# Altium schematic symbol library con-vg.SCHLIB: 123 symbols (part 2 of 5)

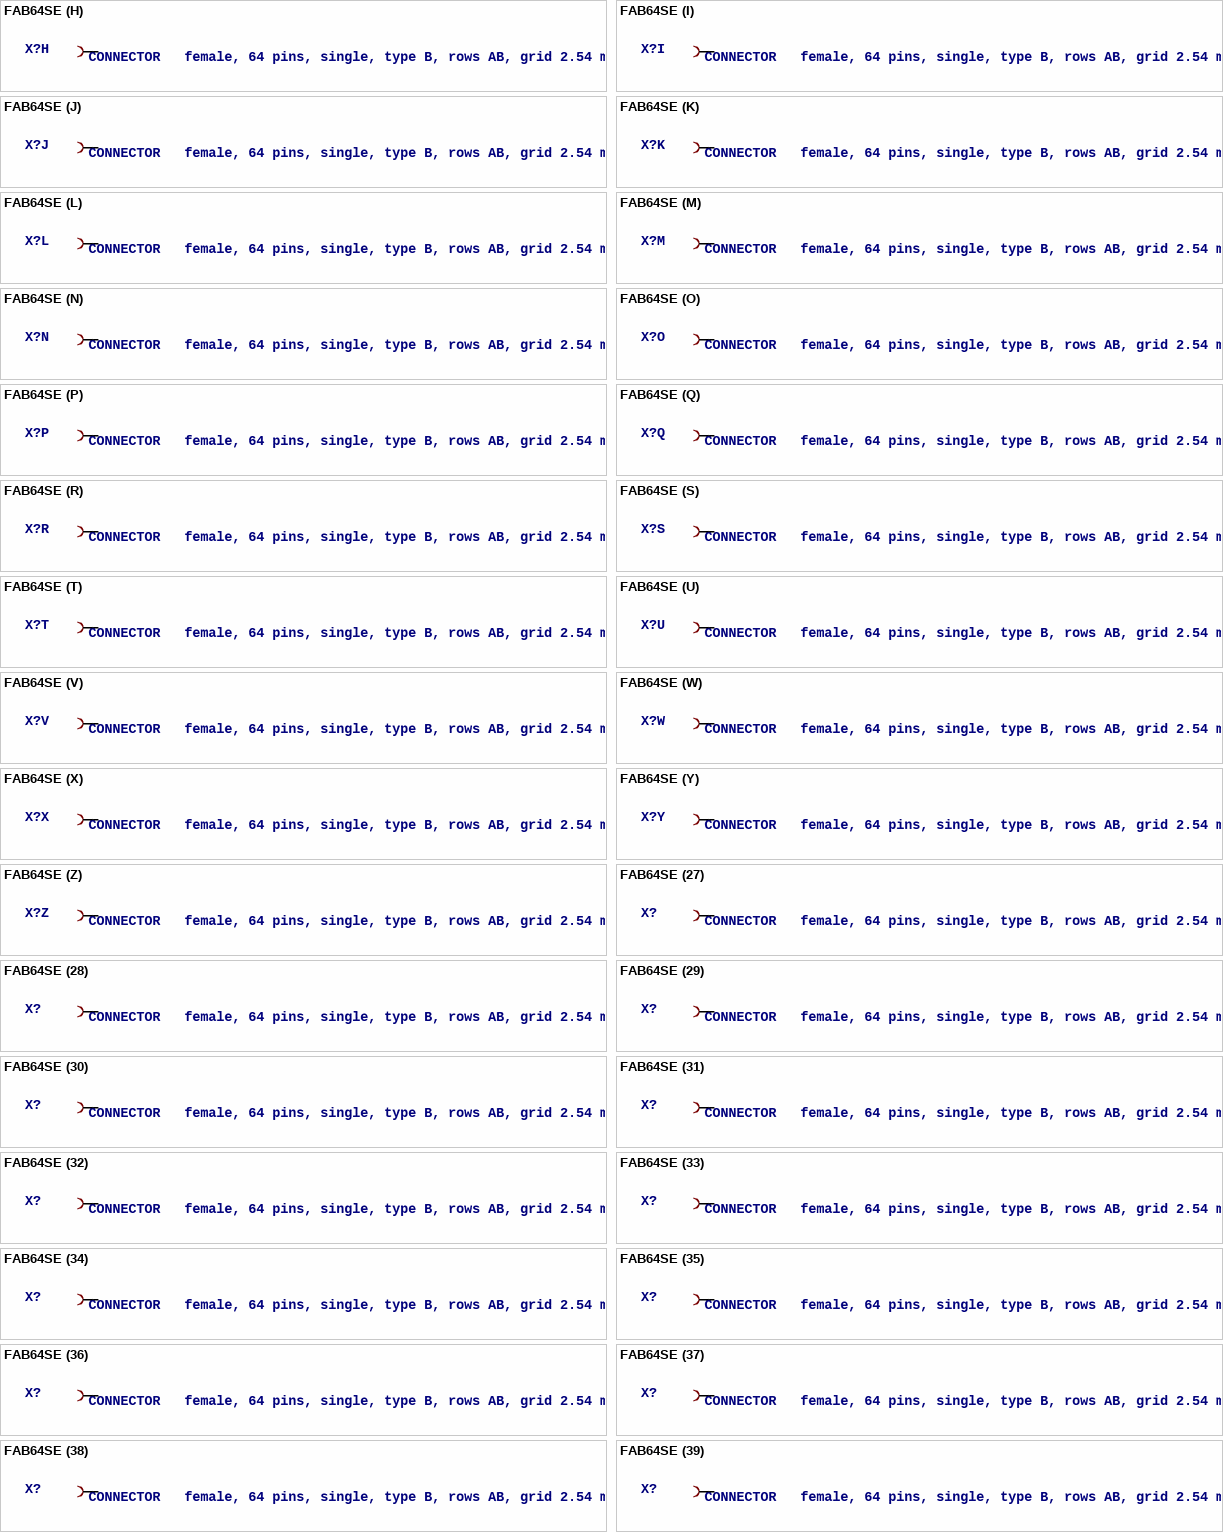
[diagram p23: symbol FAB64SE]

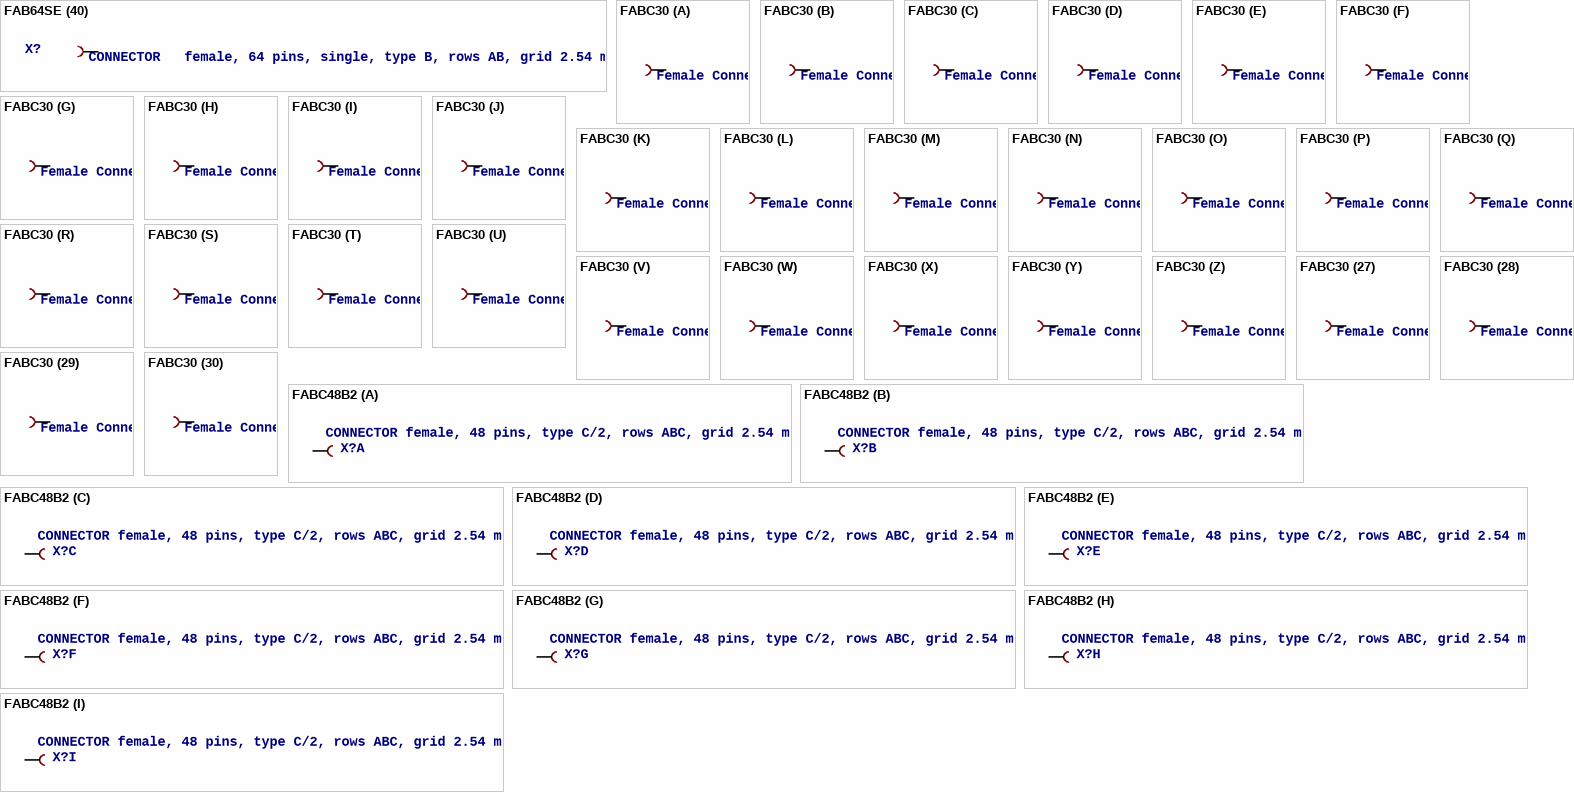
[diagram p24: symbols FAB64SE to FABC48B2]

## FAB64SE
designator X?, comment CONNECTOR   female, 64 pins, single, type B, rows AB, grid 2.54 mm
footprint FAB64S
part A pins: A1 B
part B pins: A2 B
part C pins: A3 B
part D pins: A4 B
part E pins: A5 B
part F pins: A6 B
part G pins: A7 B
part H pins: A8 B
part I pins: A9 B
part J pins: A10 B
part K pins: A11 B
part L pins: A12 B
part M pins: A13 B
part N pins: A14 B
part O pins: A15 B
part P pins: A16 B
part Q pins: A17 B
part R pins: A18 B
part S pins: A19 B
part T pins: A20 B
part U pins: A21 B
part V pins: A22 B
part W pins: A23 B
part X pins: A24 B
part Y pins: A25 B
part Z pins: A26 B
part 27 pins: A27 B
part 28 pins: A28 B
part 29 pins: A29 B
part 30 pins: A30 B
part 31 pins: A31 B
part 32 pins: A32 B
part 33 pins: B1 B
part 34 pins: B2 B
part 35 pins: B3 B
part 36 pins: B4 B
part 37 pins: B5 B
part 38 pins: B6 B
part 39 pins: B7 B
part 40 pins: B8 B
part 41 pins: B9 B
part 42 pins: B10 B
part 43 pins: B11 B
part 44 pins: B12 B
part 45 pins: B13 B
part 46 pins: B14 B
part 47 pins: B15 B
part 48 pins: B16 B
part 49 pins: B17 B
part 50 pins: B18 B
part 51 pins: B19 B
part 52 pins: B20 B
part 53 pins: B21 B
part 54 pins: B22 B
part 55 pins: B23 B
part 56 pins: B24 B
part 57 pins: B25 B
part 58 pins: B26 B
part 59 pins: B27 B
part 60 pins: B28 B
part 61 pins: B29 B
part 62 pins: B30 B
part 63 pins: B31 B
part 64 pins: B32 B

## FABC30
designator X?, comment Female Connector C/3, 30 Solder   DIN EN 60 603-02 Source: www.erni.com .. 254891.pdf
footprint FABC30
part A pins: A1 B
part B pins: A2 B
part C pins: A3 B
part D pins: A4 B
part E pins: A5 B
part F pins: A6 B
part G pins: A7 B
part H pins: A8 B
part I pins: A9 B
part J pins: A10 B
part K pins: B1 B
part L pins: B2 B
part M pins: B3 B
part N pins: B4 B
part O pins: B5 B
part P pins: B6 B
part Q pins: B7 B
part R pins: B8 B
part S pins: B9 B
part T pins: B10 B
part U pins: C1 B
part V pins: C2 B
part W pins: C3 B
part X pins: C4 B
part Y pins: C5 B
part Z pins: C6 B
part 27 pins: C7 B
part 28 pins: C8 B
part 29 pins: C9 B
part 30 pins: C10 B

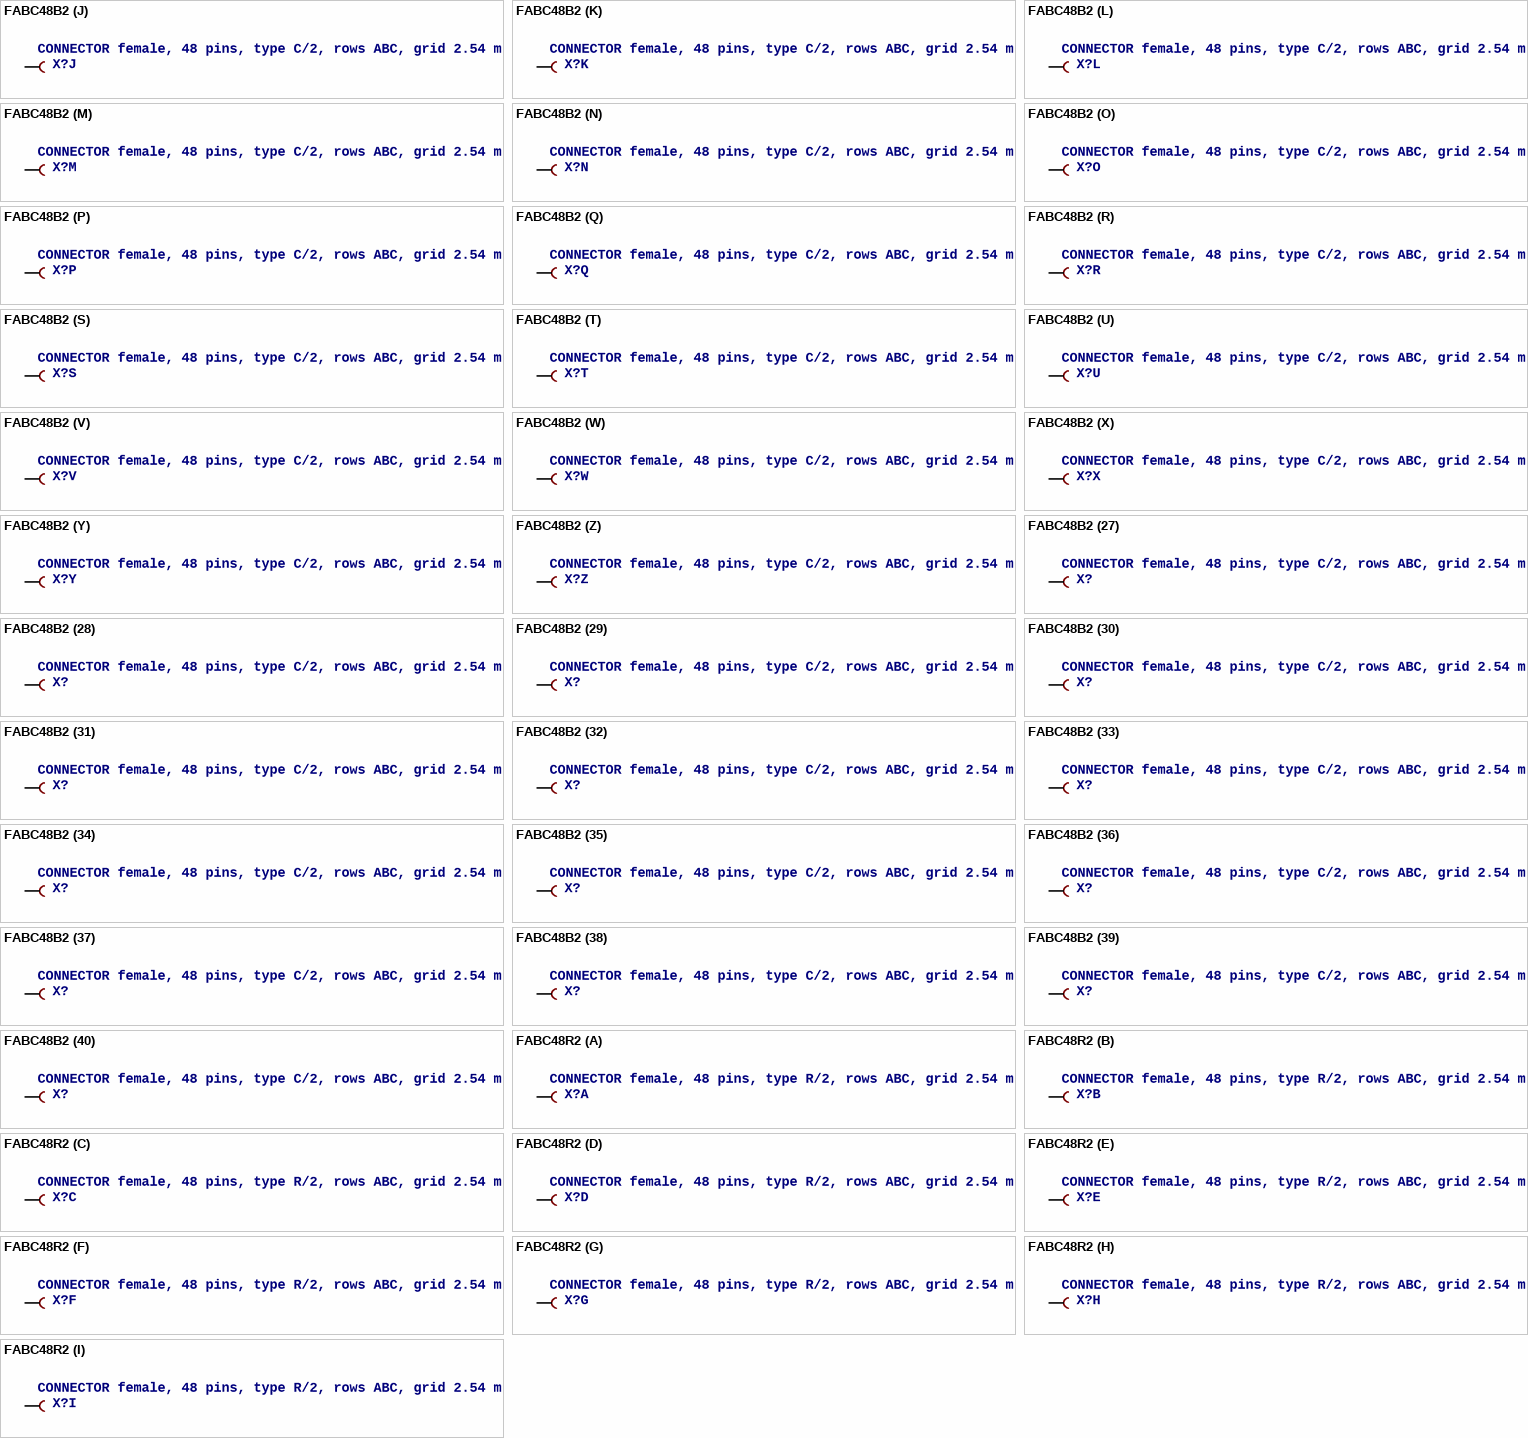
[diagram p25: symbols FABC48B2 to FABC48R2]

## FABC48B2
designator X?, comment CONNECTOR female, 48 pins, type C/2, rows ABC, grid 2.54 mm
footprint FABC48B2
part A pins: A1 B
part B pins: A2 B
part C pins: A3 B
part D pins: A4 B
part E pins: A5 B
part F pins: A6 B
part G pins: A7 B
part H pins: A8 B
part I pins: A9 B
part J pins: A10 B
part K pins: A11 B
part L pins: A12 B
part M pins: A13 B
part N pins: A14 B
part O pins: A15 B
part P pins: A16 B
part Q pins: B1 B
part R pins: B2 B
part S pins: B3 B
part T pins: B4 B
part U pins: B5 B
part V pins: B6 B
part W pins: B7 B
part X pins: B8 B
part Y pins: B9 B
part Z pins: B10 B
part 27 pins: B11 B
part 28 pins: B12 B
part 29 pins: B13 B
part 30 pins: B14 B
part 31 pins: B15 B
part 32 pins: B16 B
part 33 pins: C1 B
part 34 pins: C2 B
part 35 pins: C3 B
part 36 pins: C4 B
part 37 pins: C5 B
part 38 pins: C6 B
part 39 pins: C7 B
part 40 pins: C8 B
part 41 pins: C9 B
part 42 pins: C10 B
part 43 pins: C11 B
part 44 pins: C12 B
part 45 pins: C13 B
part 46 pins: C14 B
part 47 pins: C15 B
part 48 pins: C16 B

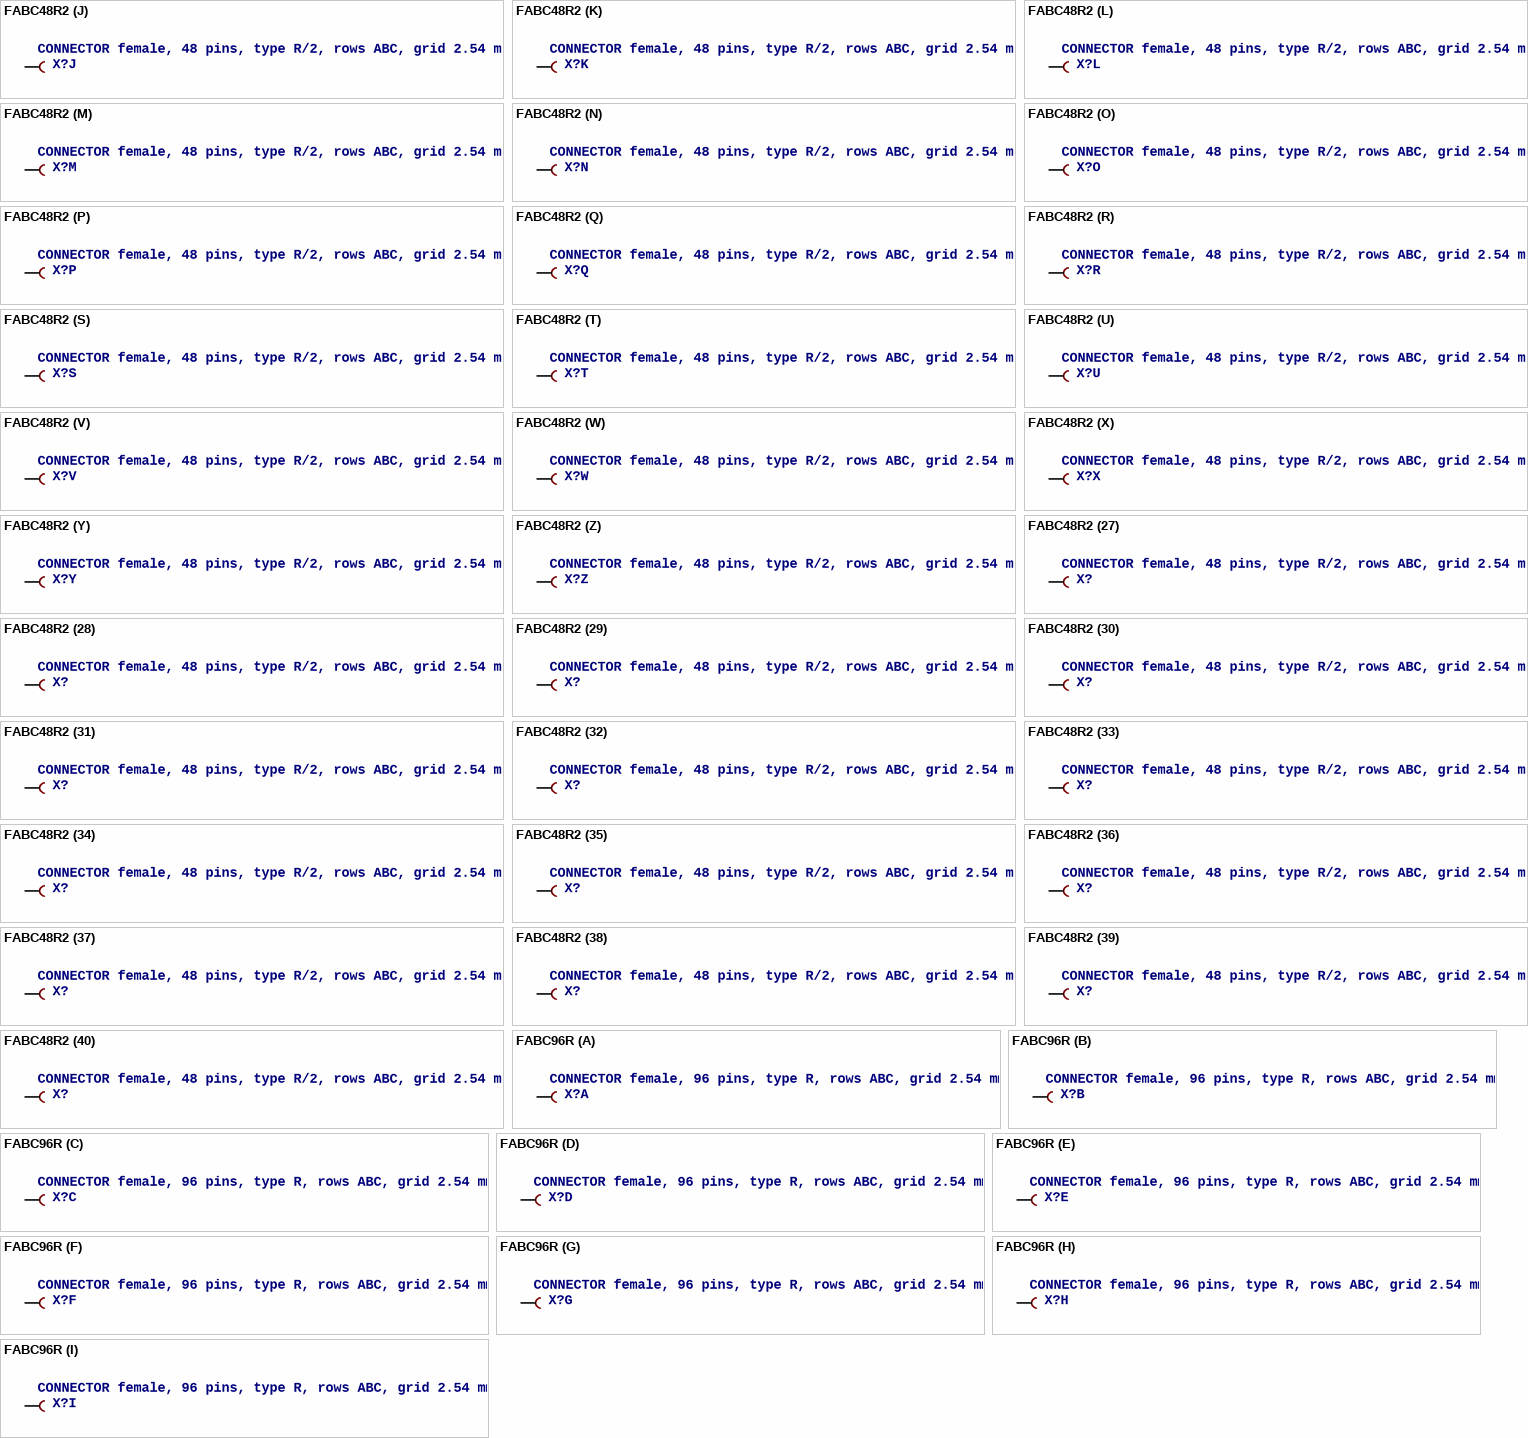
[diagram p26: symbols FABC48R2 to FABC96R]

## FABC48R2
designator X?, comment CONNECTOR female, 48 pins, type R/2, rows ABC, grid 2.54 mm
footprint FABC48R2
part A pins: A1 B
part B pins: A2 B
part C pins: A3 B
part D pins: A4 B
part E pins: A5 B
part F pins: A6 B
part G pins: A7 B
part H pins: A8 B
part I pins: A9 B
part J pins: A10 B
part K pins: A11 B
part L pins: A12 B
part M pins: A13 B
part N pins: A14 B
part O pins: A15 B
part P pins: A16 B
part Q pins: B1 B
part R pins: B2 B
part S pins: B3 B
part T pins: B4 B
part U pins: B5 B
part V pins: B6 B
part W pins: B7 B
part X pins: B8 B
part Y pins: B9 B
part Z pins: B10 B
part 27 pins: B11 B
part 28 pins: B12 B
part 29 pins: B13 B
part 30 pins: B14 B
part 31 pins: B15 B
part 32 pins: B16 B
part 33 pins: C1 B
part 34 pins: C2 B
part 35 pins: C3 B
part 36 pins: C4 B
part 37 pins: C5 B
part 38 pins: C6 B
part 39 pins: C7 B
part 40 pins: C8 B
part 41 pins: C9 B
part 42 pins: C10 B
part 43 pins: C11 B
part 44 pins: C12 B
part 45 pins: C13 B
part 46 pins: C14 B
part 47 pins: C15 B
part 48 pins: C16 B

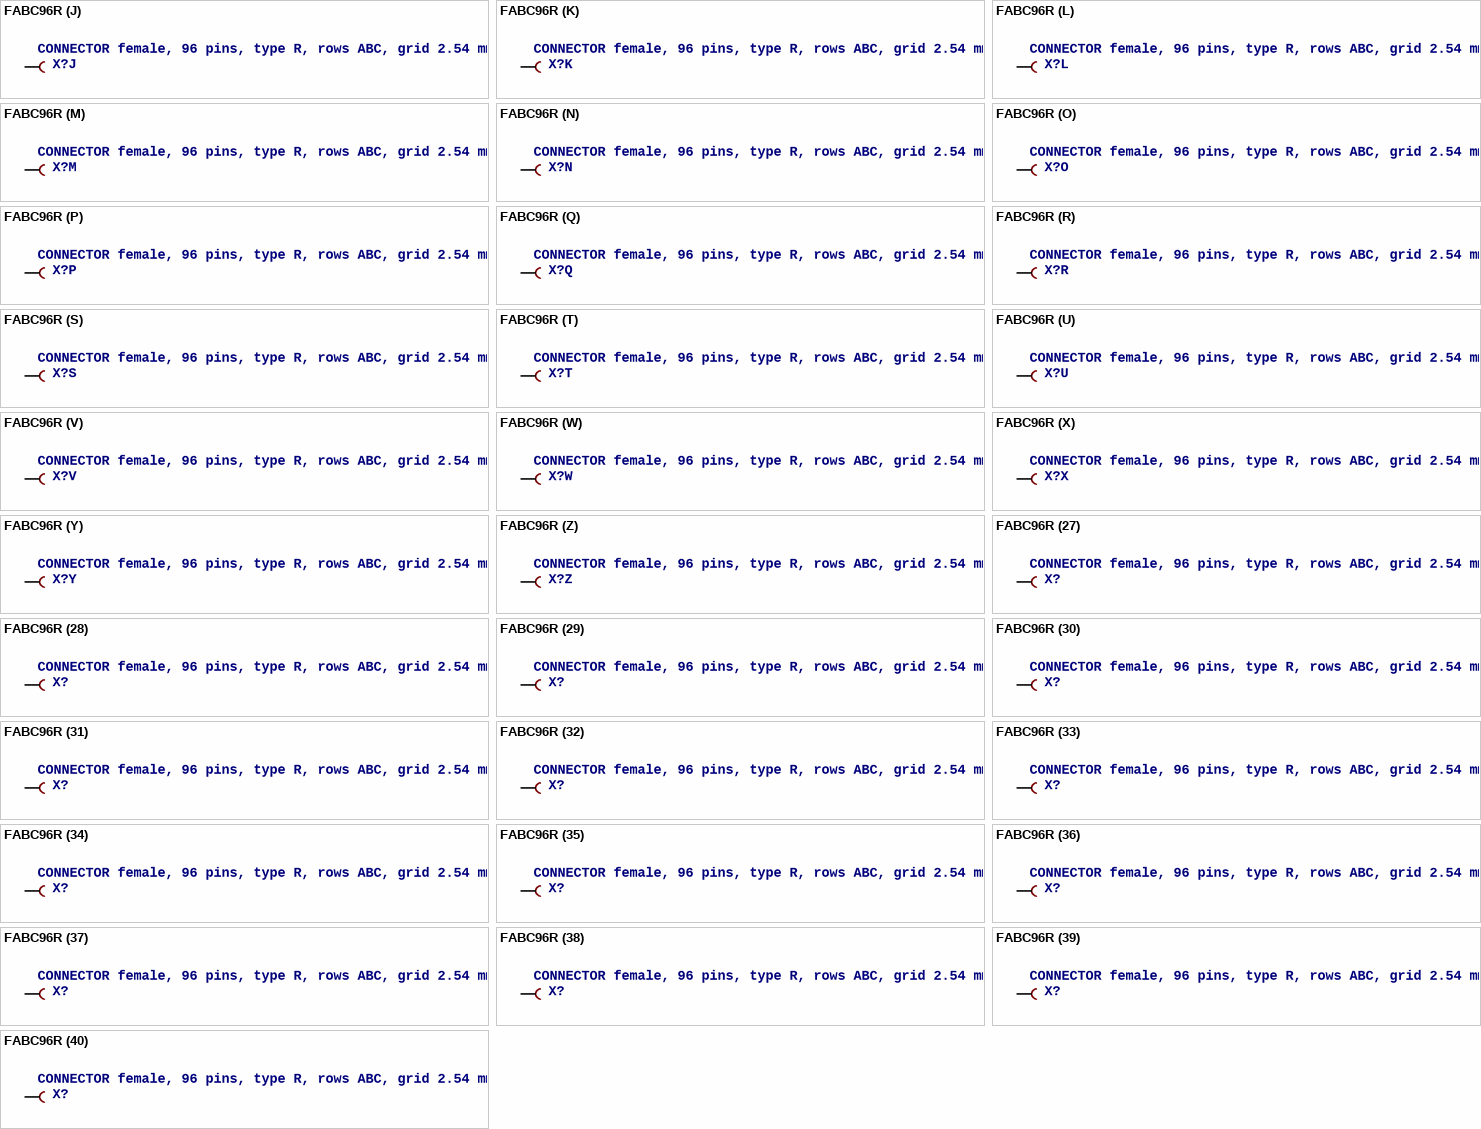
[diagram p27: symbol FABC96R]

## FABC96R
designator X?, comment CONNECTOR female, 96 pins, type R, rows ABC, grid 2.54 mm
footprint FABC96R
part A pins: A1 B
part B pins: A2 B
part C pins: A3 B
part D pins: A4 B
part E pins: A5 B
part F pins: A6 B
part G pins: A7 B
part H pins: A8 B
part I pins: A9 B
part J pins: A10 B
part K pins: A11 B
part L pins: A12 B
part M pins: A13 B
part N pins: A14 B
part O pins: A15 B
part P pins: A16 B
part Q pins: A17 B
part R pins: A18 B
part S pins: A19 B
part T pins: A20 B
part U pins: A21 B
part V pins: A22 B
part W pins: A23 B
part X pins: A24 B
part Y pins: A25 B
part Z pins: A26 B
part 27 pins: A27 B
part 28 pins: A28 B
part 29 pins: A29 B
part 30 pins: A30 B
part 31 pins: A31 B
part 32 pins: A32 B
part 33 pins: B1 B
part 34 pins: B2 B
part 35 pins: B3 B
part 36 pins: B4 B
part 37 pins: B5 B
part 38 pins: B6 B
part 39 pins: B7 B
part 40 pins: B8 B
part 41 pins: B9 B
part 42 pins: B10 B
part 43 pins: B11 B
part 44 pins: B12 B
part 45 pins: B13 B
part 46 pins: B14 B
part 47 pins: B15 B
part 48 pins: B16 B
part 49 pins: B17 B
part 50 pins: B18 B
part 51 pins: B19 B
part 52 pins: B20 B
part 53 pins: B21 B
part 54 pins: B22 B
part 55 pins: B23 B
part 56 pins: B24 B
part 57 pins: B25 B
part 58 pins: B26 B
part 59 pins: B27 B
part 60 pins: B28 B
part 61 pins: B29 B
part 62 pins: B30 B
part 63 pins: B31 B
part 64 pins: B32 B
part 65 pins: C1 B
part 66 pins: C2 B
part 67 pins: C3 B
part 68 pins: C4 B
part 69 pins: C5 B
part 70 pins: C6 B
part 71 pins: C7 B
part 72 pins: C8 B
part 73 pins: C9 B
part 74 pins: C10 B
part 75 pins: C11 B
part 76 pins: C12 B
part 77 pins: C13 B
part 78 pins: C14 B
part 79 pins: C15 B
part 80 pins: C16 B
part 81 pins: C17 B
part 82 pins: C18 B
part 83 pins: C19 B
part 84 pins: C20 B
part 85 pins: C21 B
part 86 pins: C22 B
part 87 pins: C23 B
part 88 pins: C24 B
part 89 pins: C25 B
part 90 pins: C26 B
part 91 pins: C27 B
part 92 pins: C28 B
part 93 pins: C29 B
part 94 pins: C30 B
part 95 pins: C31 B
part 96 pins: C32 B

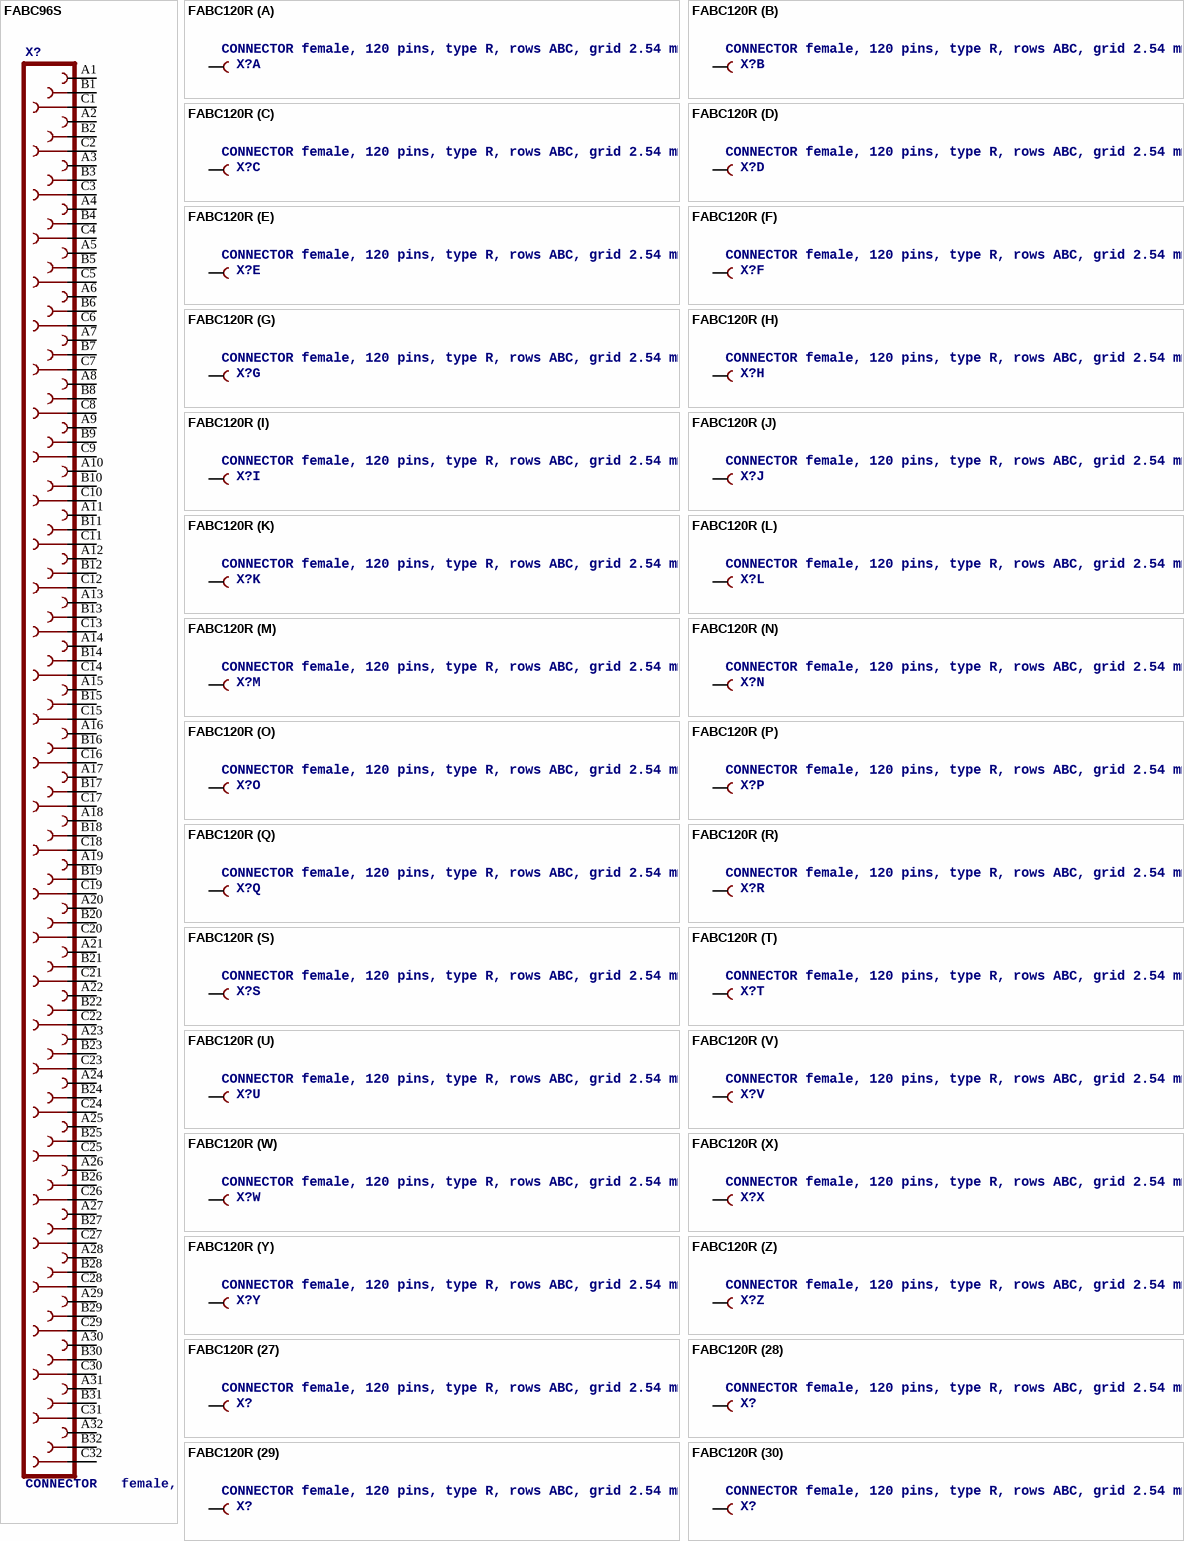
[diagram p28: symbols FABC96S to FABC120R]

## FABC96S
designator X?, comment CONNECTOR   female, 96 pins, block, type C, rows ABC, grid 2.54 mm
footprint FABC96S
pins: A1, A2, A3, A4, A5, A6, A7, A8, A9, A10, A11, A12, A13, A14, A15, A16, A17, A18, A19, A20, A21, A22, A23, A24, A25, A26, A27, A28, A29, A30, A31, A32, B1, B2, B3, B4, B5, B6, B7, B8, B9, B10, B11, B12, B13, B14, B15, B16, B17, B18, B19, B20, B21, B22, B23, B24, B25, B26, B27, B28, B29, B30, B31, B32, C1, C2, C3, C4, C5, C6, C7, C8, C9, C10, C11, C12, C13, C14, C15, C16, C17, C18, C19, C20, C21, C22, C23, C24, C25, C26, C27, C28, C29, C30, C31, C32

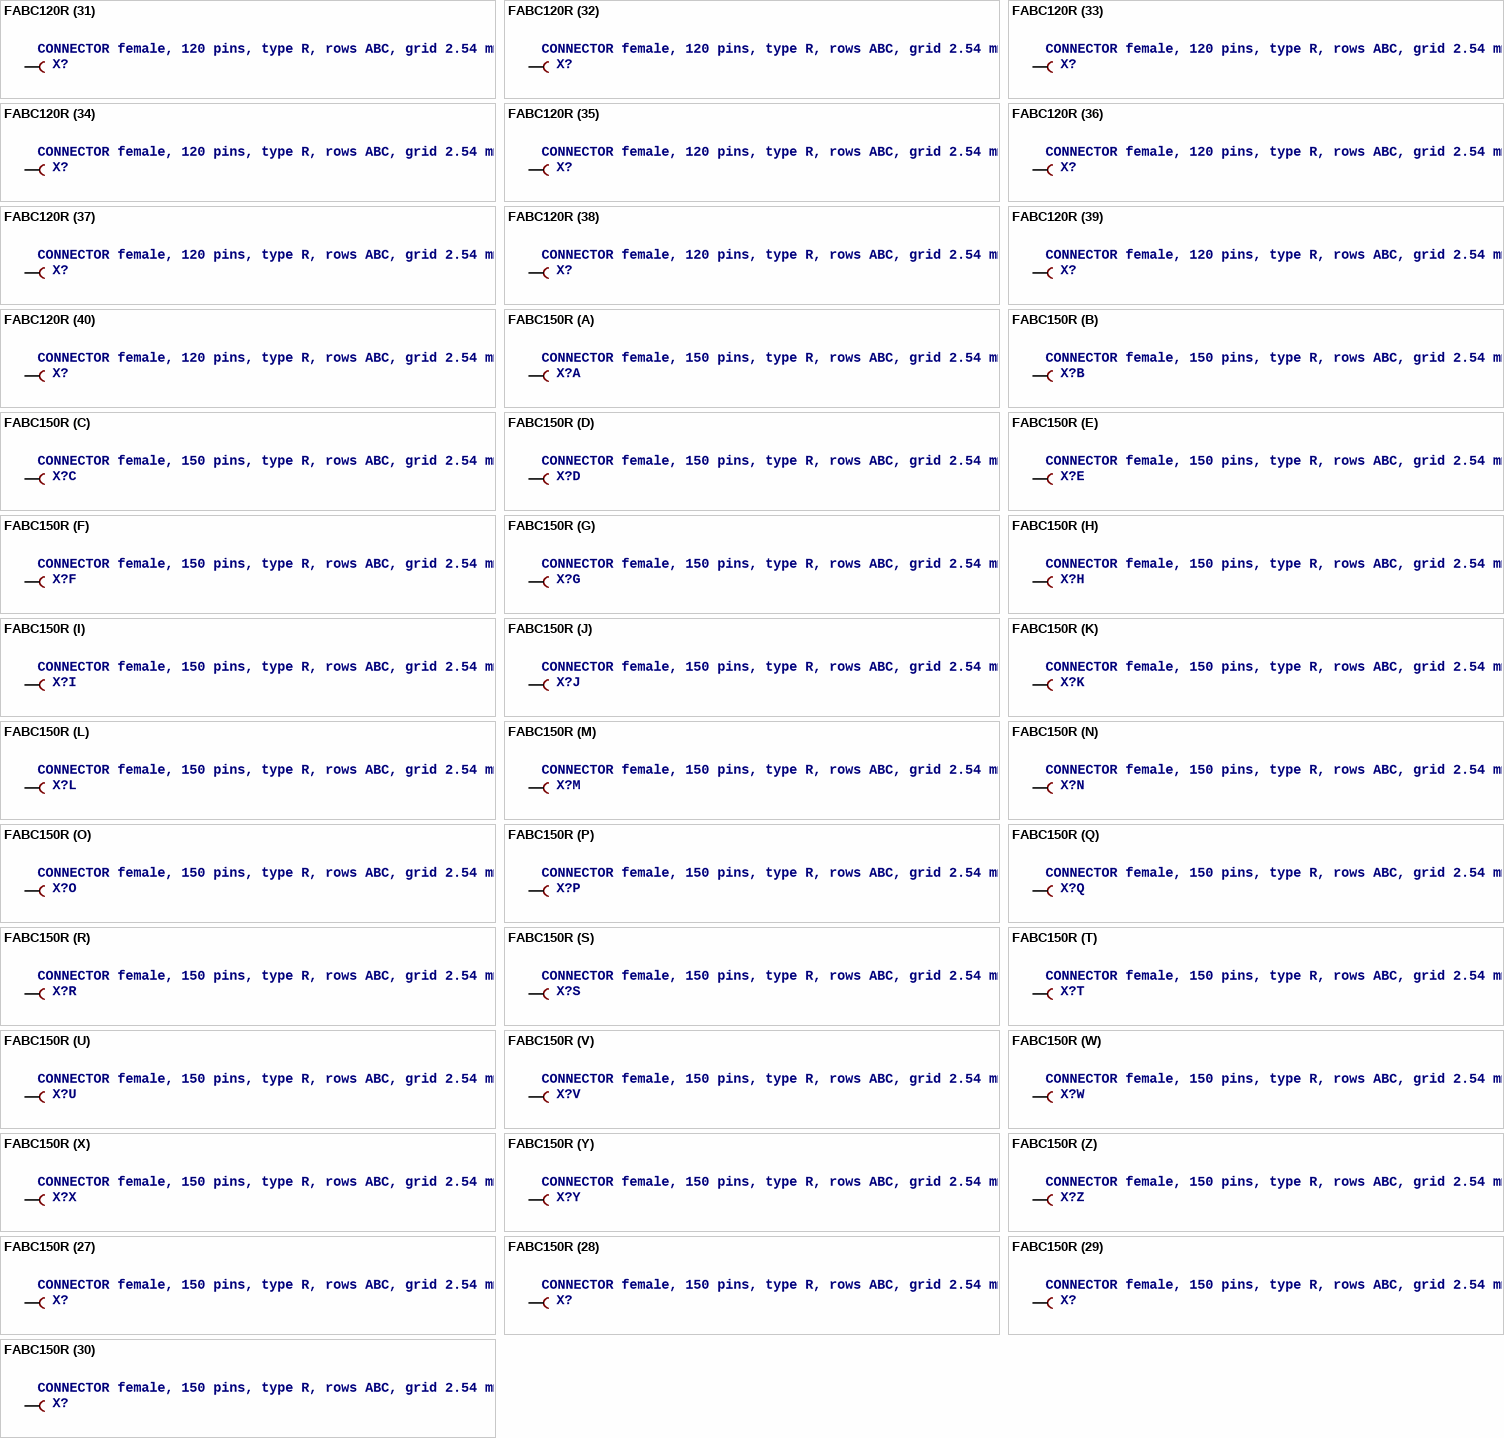
[diagram p29: symbols FABC120R to FABC150R]

## FABC120R
designator X?, comment CONNECTOR female, 120 pins, type R, rows ABC, grid 2.54 mm
footprint FABC120R
part A pins: A1 B
part B pins: A2 B
part C pins: A3 B
part D pins: A4 B
part E pins: A5 B
part F pins: A6 B
part G pins: A7 B
part H pins: A8 B
part I pins: A9 B
part J pins: A10 B
part K pins: A11 B
part L pins: A12 B
part M pins: A13 B
part N pins: A14 B
part O pins: A15 B
part P pins: A16 B
part Q pins: A17 B
part R pins: A18 B
part S pins: A19 B
part T pins: A20 B
part U pins: A21 B
part V pins: A22 B
part W pins: A23 B
part X pins: A24 B
part Y pins: A25 B
part Z pins: A26 B
part 27 pins: A27 B
part 28 pins: A28 B
part 29 pins: A29 B
part 30 pins: A30 B
part 31 pins: A31 B
part 32 pins: A32 B
part 33 pins: A33 B
part 34 pins: A34 B
part 35 pins: A35 B
part 36 pins: A36 B
part 37 pins: A37 B
part 38 pins: A38 B
part 39 pins: A39 B
part 40 pins: A40 B
part 41 pins: B1 B
part 42 pins: B2 B
part 43 pins: B3 B
part 44 pins: B4 B
part 45 pins: B5 B
part 46 pins: B6 B
part 47 pins: B7 B
part 48 pins: B8 B
part 49 pins: B9 B
part 50 pins: B10 B
part 51 pins: B11 B
part 52 pins: B12 B
part 53 pins: B13 B
part 54 pins: B14 B
part 55 pins: B15 B
part 56 pins: B16 B
part 57 pins: B17 B
part 58 pins: B18 B
part 59 pins: B19 B
part 60 pins: B20 B
part 61 pins: B21 B
part 62 pins: B22 B
part 63 pins: B23 B
part 64 pins: B24 B
part 65 pins: B25 B
part 66 pins: B26 B
part 67 pins: B27 B
part 68 pins: B28 B
part 69 pins: B29 B
part 70 pins: B30 B
part 71 pins: B31 B
part 72 pins: B32 B
part 73 pins: B33 B
part 74 pins: B34 B
part 75 pins: B35 B
part 76 pins: B36 B
part 77 pins: B37 B
part 78 pins: B38 B
part 79 pins: B39 B
part 80 pins: B40 B
part 81 pins: C1 B
part 82 pins: C2 B
part 83 pins: C3 B
part 84 pins: C4 B
part 85 pins: C5 B
part 86 pins: C6 B
part 87 pins: C7 B
part 88 pins: C8 B
part 89 pins: C9 B
part 90 pins: C10 B
part 91 pins: C11 B
part 92 pins: C12 B
part 93 pins: C13 B
part 94 pins: C14 B
part 95 pins: C15 B
part 96 pins: C16 B
part 97 pins: C17 B
part 98 pins: C18 B
part 99 pins: C19 B
part 100 pins: C20 B
part 101 pins: C21 B
part 102 pins: C22 B
part 103 pins: C23 B
part 104 pins: C24 B
part 105 pins: C25 B
part 106 pins: C26 B
part 107 pins: C27 B
part 108 pins: C28 B
part 109 pins: C29 B
part 110 pins: C30 B
part 111 pins: C31 B
part 112 pins: C32 B
part 113 pins: C33 B
part 114 pins: C34 B
part 115 pins: C35 B
part 116 pins: C36 B
part 117 pins: C37 B
part 118 pins: C38 B
part 119 pins: C39 B
part 120 pins: C40 B

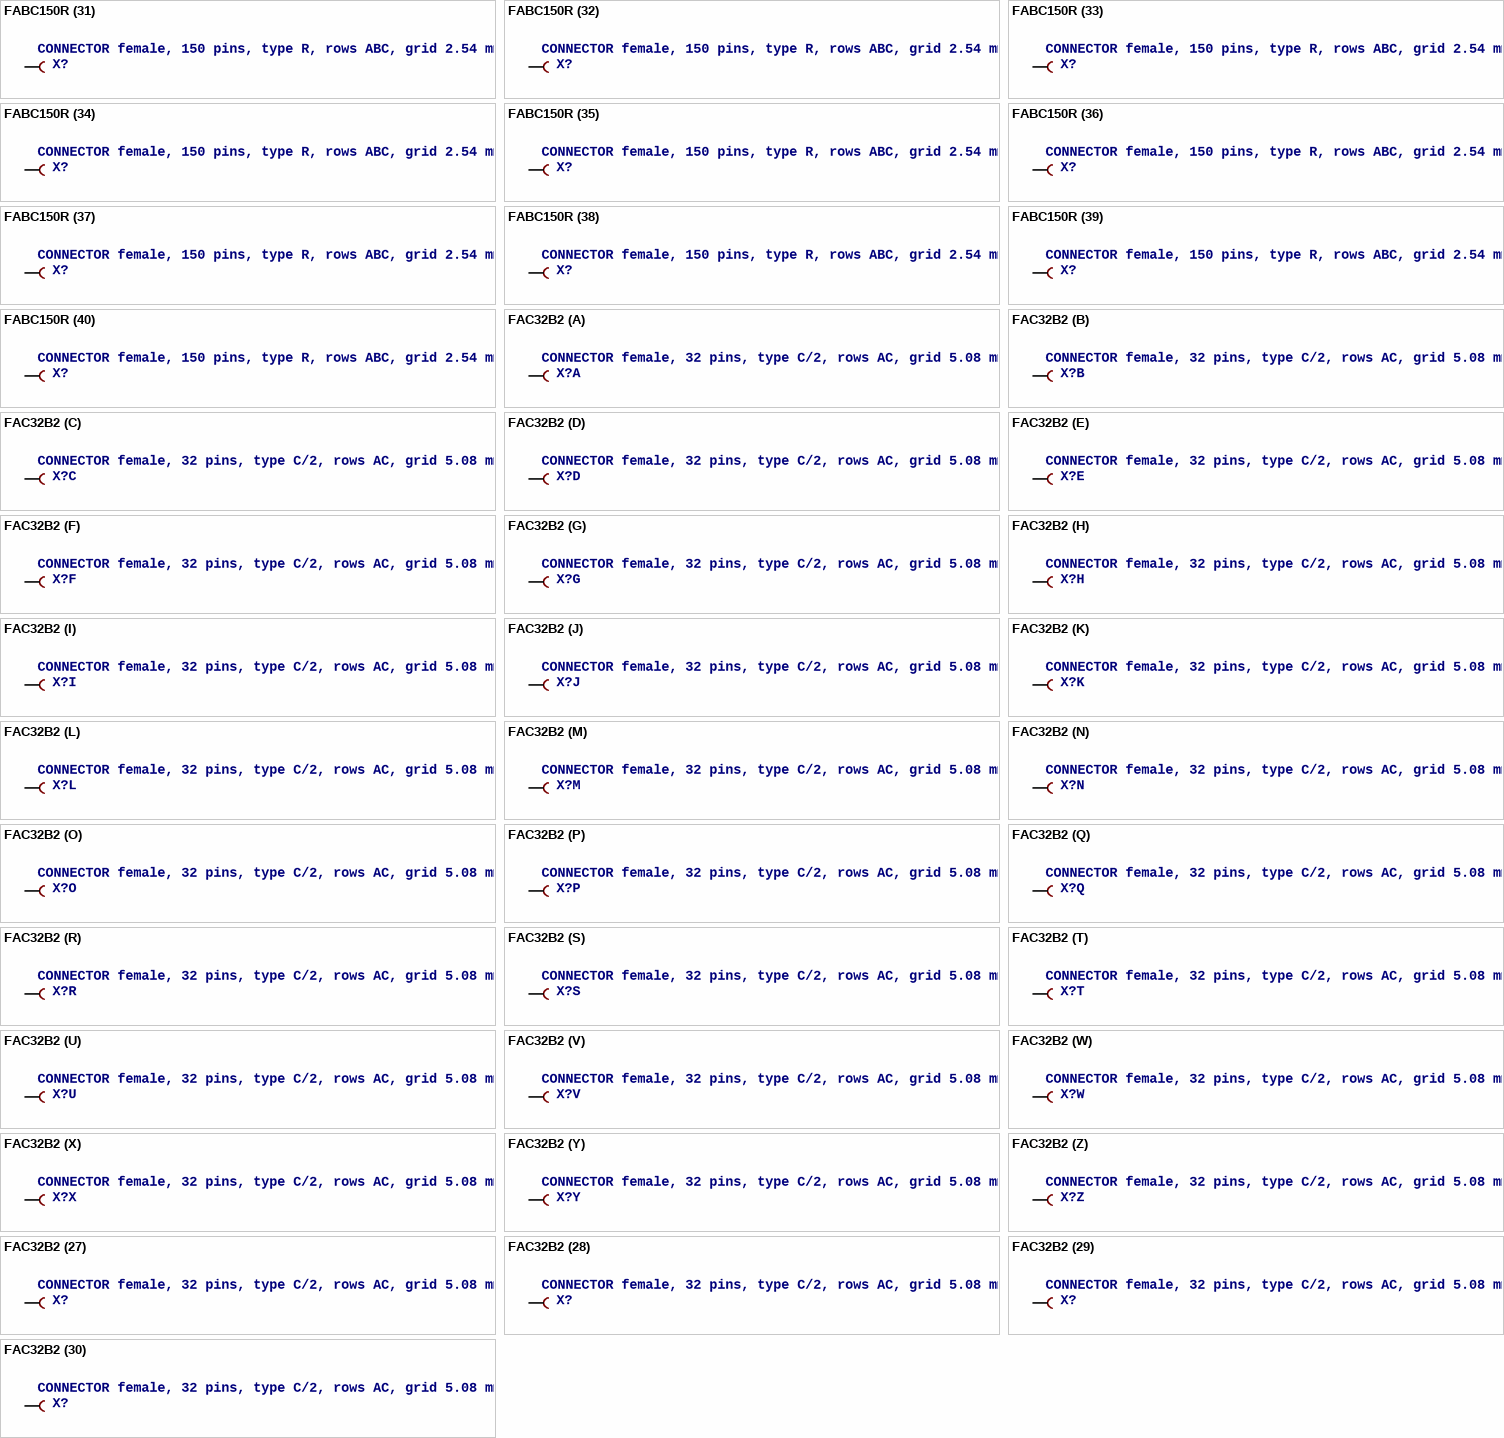
[diagram p30: symbols FABC150R to FAC32B2]

## FABC150R
designator X?, comment CONNECTOR female, 150 pins, type R, rows ABC, grid 2.54 mm
footprint FABC150R
part A pins: A1 B
part B pins: A2 B
part C pins: A3 B
part D pins: A4 B
part E pins: A5 B
part F pins: A6 B
part G pins: A7 B
part H pins: A8 B
part I pins: A9 B
part J pins: A10 B
part K pins: A11 B
part L pins: A12 B
part M pins: A13 B
part N pins: A14 B
part O pins: A15 B
part P pins: A16 B
part Q pins: A17 B
part R pins: A18 B
part S pins: A19 B
part T pins: A20 B
part U pins: A21 B
part V pins: A22 B
part W pins: A23 B
part X pins: A24 B
part Y pins: A25 B
part Z pins: A26 B
part 27 pins: A27 B
part 28 pins: A28 B
part 29 pins: A29 B
part 30 pins: A30 B
part 31 pins: A31 B
part 32 pins: A32 B
part 33 pins: A33 B
part 34 pins: A34 B
part 35 pins: A35 B
part 36 pins: A36 B
part 37 pins: A37 B
part 38 pins: A38 B
part 39 pins: A39 B
part 40 pins: A40 B
part 41 pins: A41 B
part 42 pins: A42 B
part 43 pins: A43 B
part 44 pins: A44 B
part 45 pins: A45 B
part 46 pins: A46 B
part 47 pins: A47 B
part 48 pins: A48 B
part 49 pins: A49 B
part 50 pins: A50 B
part 51 pins: B1 B
part 52 pins: B2 B
part 53 pins: B3 B
part 54 pins: B4 B
part 55 pins: B5 B
part 56 pins: B6 B
part 57 pins: B7 B
part 58 pins: B8 B
part 59 pins: B9 B
part 60 pins: B10 B
part 61 pins: B11 B
part 62 pins: B12 B
part 63 pins: B13 B
part 64 pins: B14 B
part 65 pins: B15 B
part 66 pins: B16 B
part 67 pins: B17 B
part 68 pins: B18 B
part 69 pins: B19 B
part 70 pins: B20 B
part 71 pins: B21 B
part 72 pins: B22 B
part 73 pins: B23 B
part 74 pins: B24 B
part 75 pins: B25 B
part 76 pins: B26 B
part 77 pins: B27 B
part 78 pins: B28 B
part 79 pins: B29 B
part 80 pins: B30 B
part 81 pins: B31 B
part 82 pins: B32 B
part 83 pins: B33 B
part 84 pins: B34 B
part 85 pins: B35 B
part 86 pins: B36 B
part 87 pins: B37 B
part 88 pins: B38 B
part 89 pins: B39 B
part 90 pins: B40 B
part 91 pins: B41 B
part 92 pins: B42 B
part 93 pins: B43 B
part 94 pins: B44 B
part 95 pins: B45 B
part 96 pins: B46 B
part 97 pins: B47 B
part 98 pins: B48 B
part 99 pins: B49 B
part 100 pins: B50 B
part 101 pins: C1 B
part 102 pins: C2 B
part 103 pins: C3 B
part 104 pins: C4 B
part 105 pins: C5 B
part 106 pins: C6 B
part 107 pins: C7 B
part 108 pins: C8 B
part 109 pins: C9 B
part 110 pins: C10 B
part 111 pins: C11 B
part 112 pins: C12 B
part 113 pins: C13 B
part 114 pins: C14 B
part 115 pins: C15 B
part 116 pins: C16 B
part 117 pins: C17 B
part 118 pins: C18 B
part 119 pins: C19 B
part 120 pins: C20 B
part 121 pins: C21 B
part 122 pins: C22 B
part 123 pins: C23 B
part 124 pins: C24 B
part 125 pins: C25 B
part 126 pins: C26 B
part 127 pins: C27 B
part 128 pins: C28 B
part 129 pins: C29 B
part 130 pins: C30 B
part 131 pins: C31 B
part 132 pins: C32 B
part 133 pins: C33 B
part 134 pins: C34 B
part 135 pins: C35 B
part 136 pins: C36 B
part 137 pins: C37 B
part 138 pins: C38 B
part 139 pins: C39 B
part 140 pins: C40 B
part 141 pins: C41 B
part 142 pins: C42 B
part 143 pins: C43 B
part 144 pins: C44 B
part 145 pins: C45 B
part 146 pins: C46 B
part 147 pins: C47 B
part 148 pins: C48 B
part 149 pins: C49 B
part 150 pins: C50 B

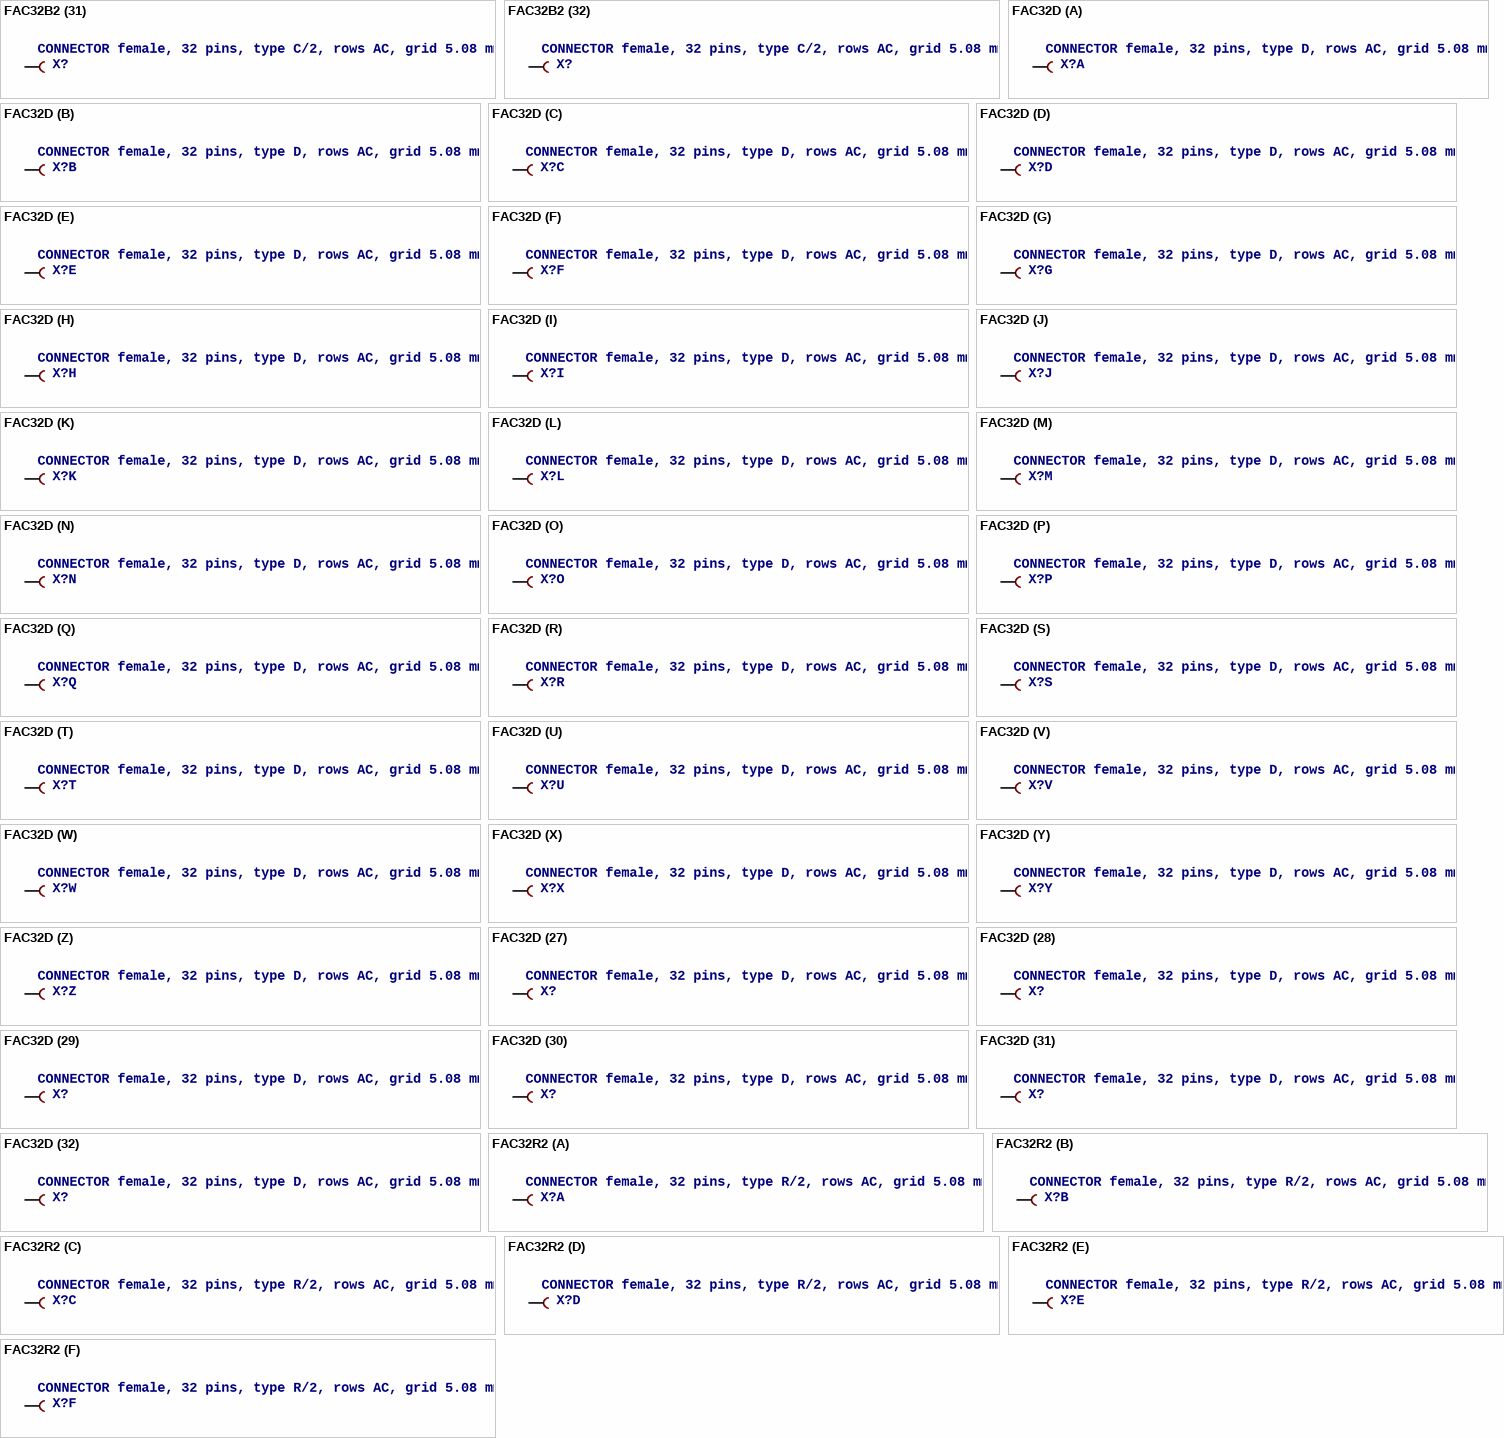
[diagram p31: symbols FAC32B2 to FAC32R2]

## FAC32B2
designator X?, comment CONNECTOR female, 32 pins, type C/2, rows AC, grid 5.08 mm
footprint FAC32B2
part A pins: A1 B
part B pins: A2 B
part C pins: A3 B
part D pins: A4 B
part E pins: A5 B
part F pins: A6 B
part G pins: A7 B
part H pins: A8 B
part I pins: A9 B
part J pins: A10 B
part K pins: A11 B
part L pins: A12 B
part M pins: A13 B
part N pins: A14 B
part O pins: A15 B
part P pins: A16 B
part Q pins: C1 B
part R pins: C2 B
part S pins: C3 B
part T pins: C4 B
part U pins: C5 B
part V pins: C6 B
part W pins: C7 B
part X pins: C8 B
part Y pins: C9 B
part Z pins: C10 B
part 27 pins: C11 B
part 28 pins: C12 B
part 29 pins: C13 B
part 30 pins: C14 B
part 31 pins: C15 B
part 32 pins: C16 B

## FAC32D
designator X?, comment CONNECTOR female, 32 pins, type D, rows AC, grid 5.08 mm
footprint FAC32D
part A pins: A4 B
part B pins: A6 B
part C pins: A8 B
part D pins: A10 B
part E pins: A12 B
part F pins: A14 B
part G pins: A16 B
part H pins: A18 B
part I pins: A20 B
part J pins: A22 B
part K pins: A24 B
part L pins: A26 B
part M pins: A28 B
part N pins: A30 B
part O pins: A32 B
part P pins: A2 B
part Q pins: C2 B
part R pins: C4 B
part S pins: C6 B
part T pins: C8 B
part U pins: C10 B
part V pins: C12 B
part W pins: C14 B
part X pins: C16 B
part Y pins: C18 B
part Z pins: C20 B
part 27 pins: C22 B
part 28 pins: C24 B
part 29 pins: C26 B
part 30 pins: C28 B
part 31 pins: C30 B
part 32 pins: C32 B

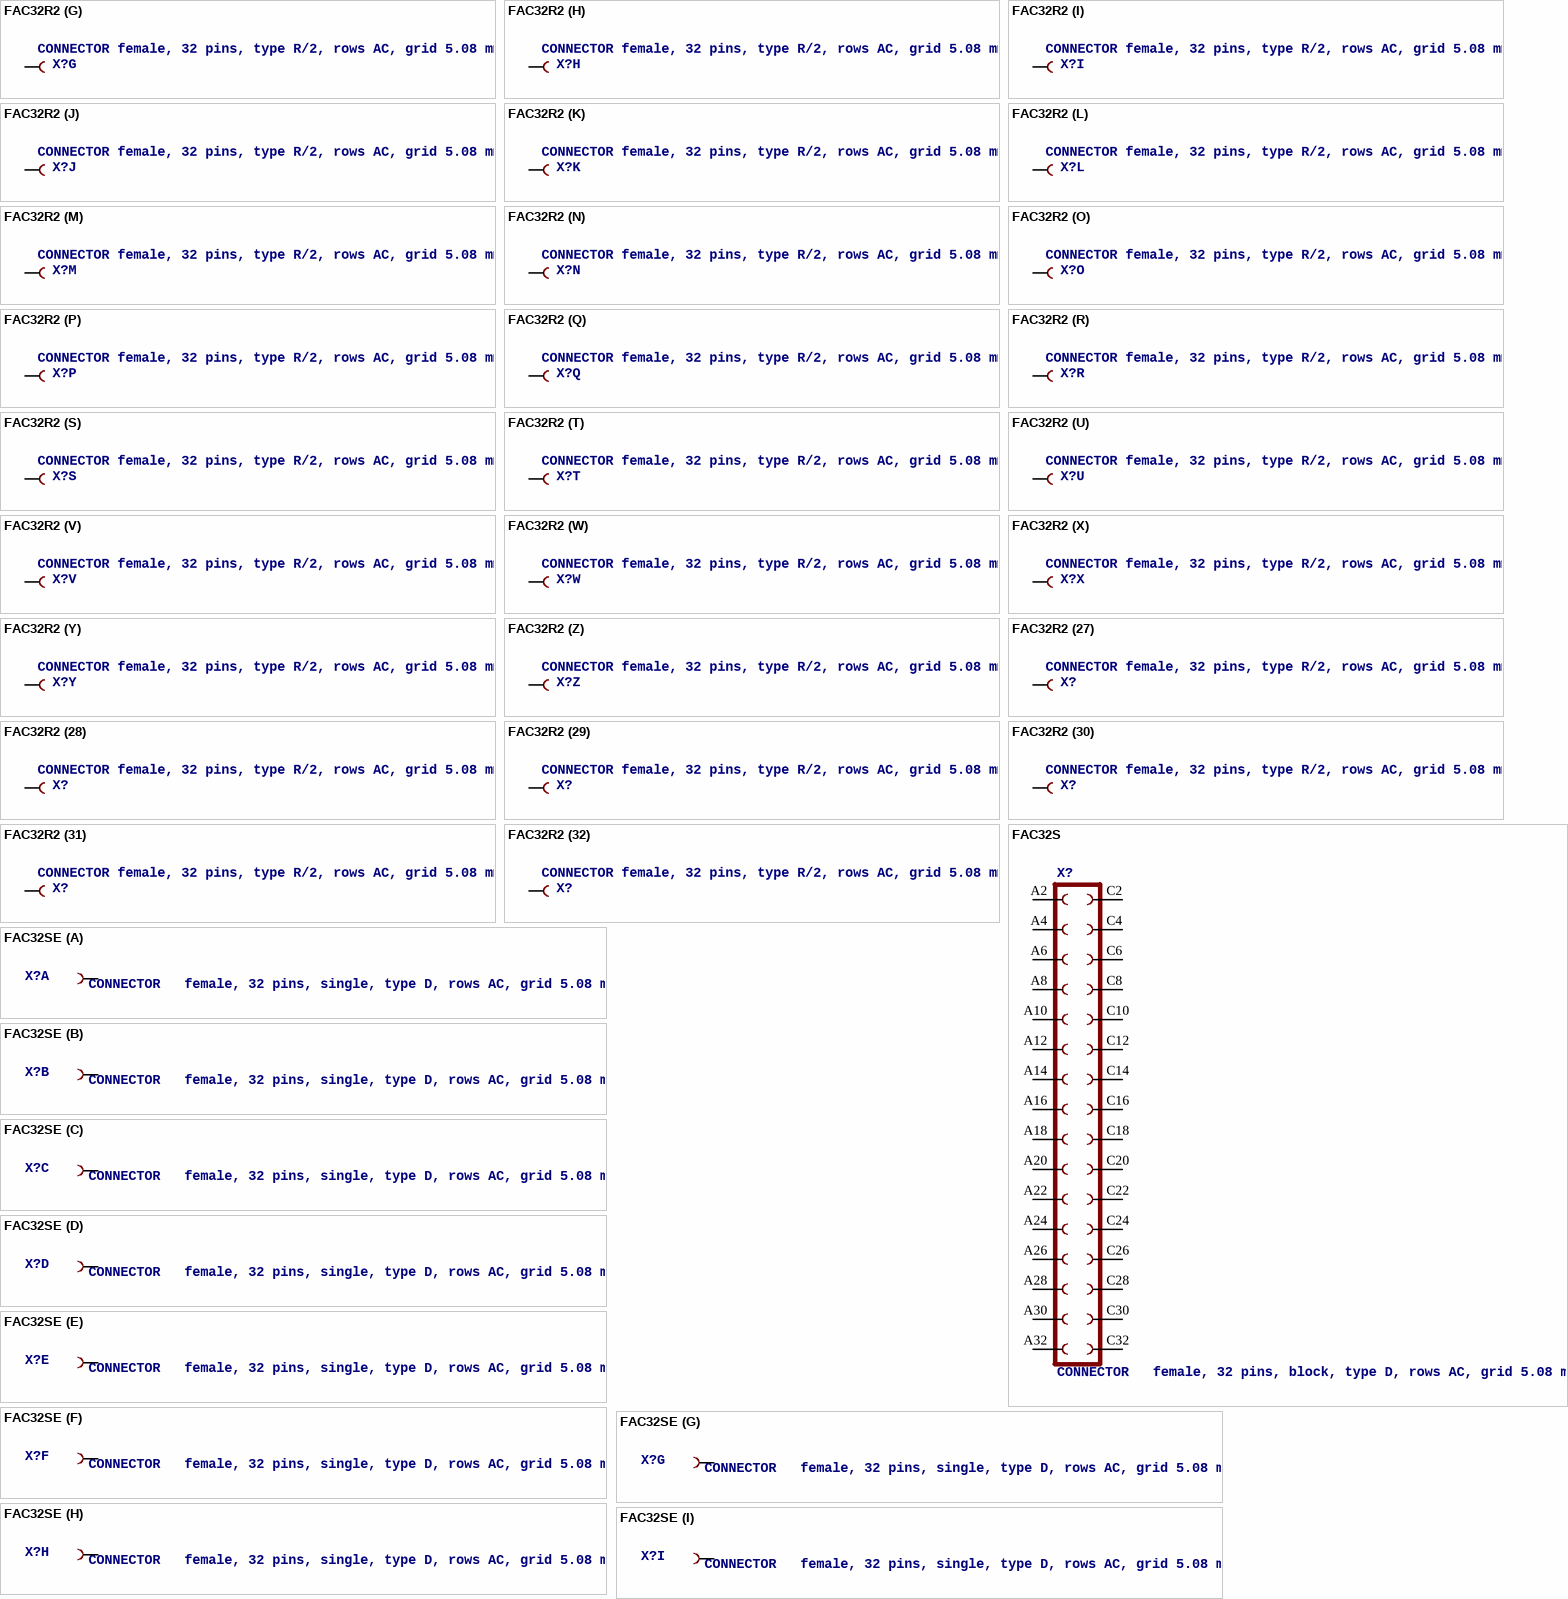
[diagram p32: symbols FAC32R2 to FAC32SE]

## FAC32R2
designator X?, comment CONNECTOR female, 32 pins, type R/2, rows AC, grid 5.08 mm
footprint FAC32R2
part A pins: A1 B
part B pins: A2 B
part C pins: A3 B
part D pins: A4 B
part E pins: A5 B
part F pins: A6 B
part G pins: A7 B
part H pins: A8 B
part I pins: A9 B
part J pins: A10 B
part K pins: A11 B
part L pins: A12 B
part M pins: A13 B
part N pins: A14 B
part O pins: A15 B
part P pins: A16 B
part Q pins: C1 B
part R pins: C2 B
part S pins: C3 B
part T pins: C4 B
part U pins: C5 B
part V pins: C6 B
part W pins: C7 B
part X pins: C8 B
part Y pins: C9 B
part Z pins: C10 B
part 27 pins: C11 B
part 28 pins: C12 B
part 29 pins: C13 B
part 30 pins: C14 B
part 31 pins: C15 B
part 32 pins: C16 B

## FAC32S
designator X?, comment CONNECTOR   female, 32 pins, block, type D, rows AC, grid 5.08 mm
footprint FAC32S
pins: A2, A4, A6, A8, A10, A12, A14, A16, A18, A20, A22, A24, A26, A28, A30, A32, C2, C4, C6, C8, C10, C12, C14, C16, C18, C20, C22, C24, C26, C28, C30, C32

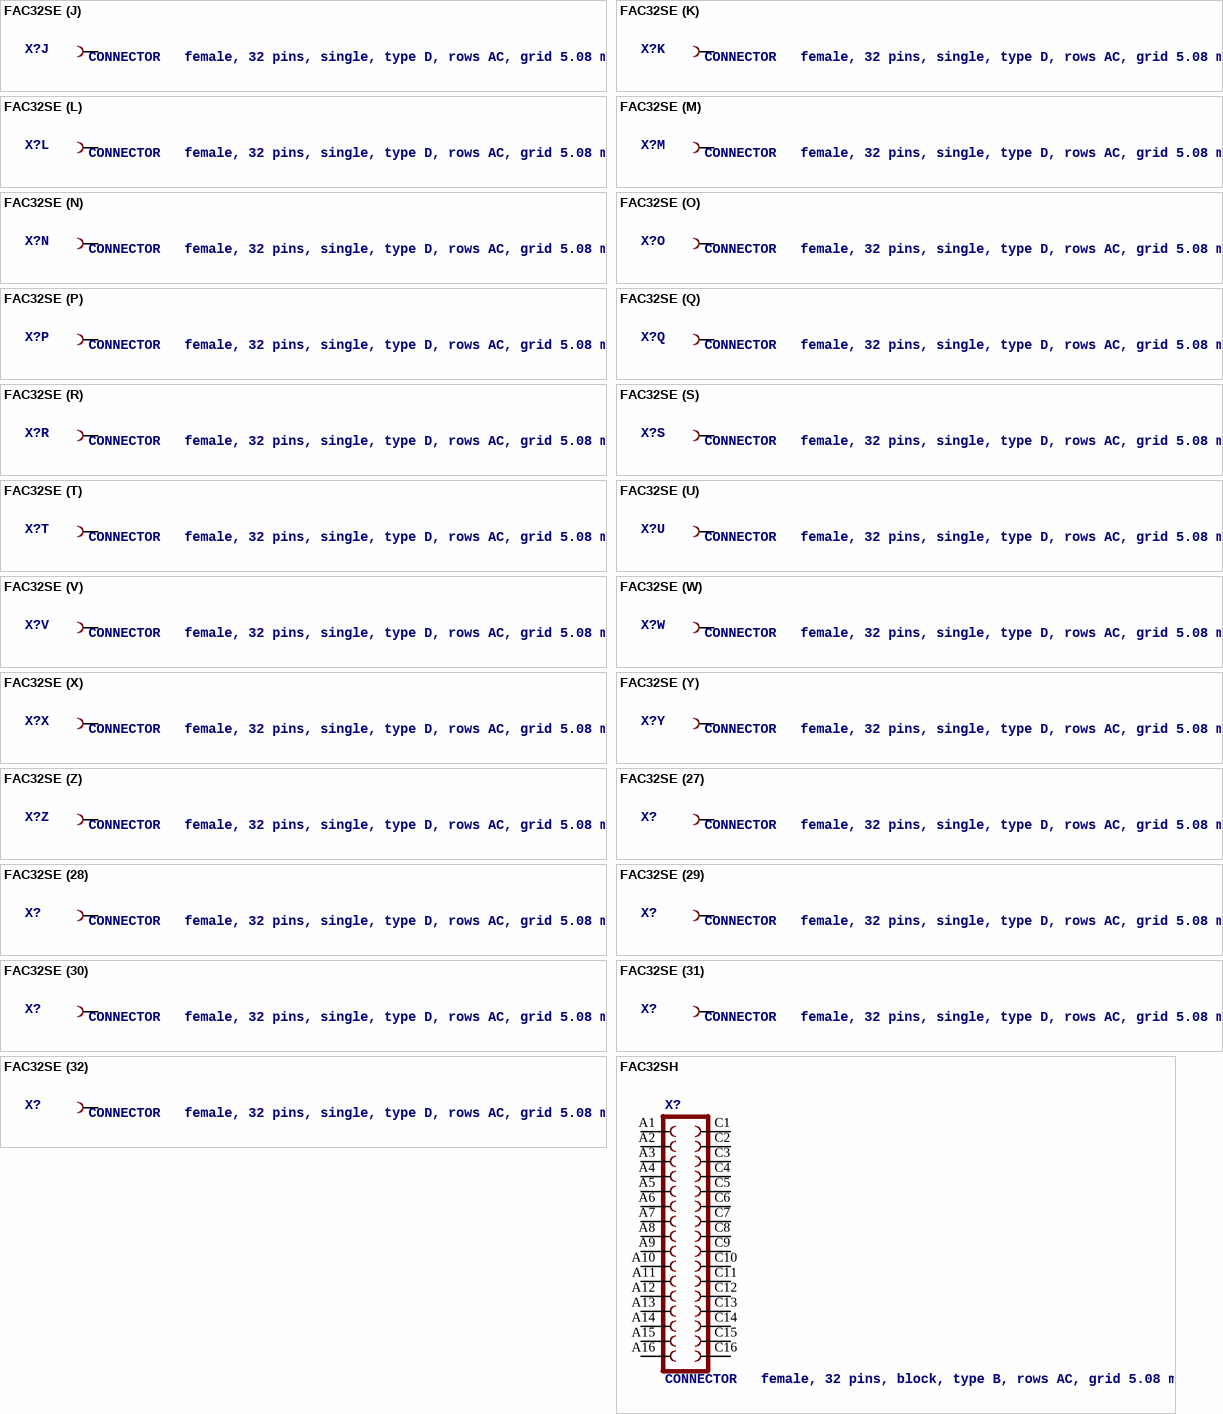
[diagram p33: symbols FAC32SE to FAC32SH]

## FAC32SE
designator X?, comment CONNECTOR   female, 32 pins, single, type D, rows AC, grid 5.08 mm
footprint FAC32S
part A pins: A2 B
part B pins: A4 B
part C pins: A6 B
part D pins: A8 B
part E pins: A10 B
part F pins: A12 B
part G pins: A14 B
part H pins: A16 B
part I pins: A18 B
part J pins: A20 B
part K pins: A22 B
part L pins: A24 B
part M pins: A26 B
part N pins: A28 B
part O pins: A30 B
part P pins: A32 B
part Q pins: C2 B
part R pins: C4 B
part S pins: C6 B
part T pins: C8 B
part U pins: C10 B
part V pins: C12 B
part W pins: C14 B
part X pins: C16 B
part Y pins: C18 B
part Z pins: C20 B
part 27 pins: C22 B
part 28 pins: C24 B
part 29 pins: C26 B
part 30 pins: C28 B
part 31 pins: C30 B
part 32 pins: C32 B

## FAC32SH
designator X?, comment CONNECTOR   female, 32 pins, block, type B, rows AC, grid 5.08 mm
footprint FAC32SH
pins: A1, A2, A3, A4, A5, A6, A7, A8, A9, A10, A11, A12, A13, A14, A15, A16, C1, C2, C3, C4, C5, C6, C7, C8, C9, C10, C11, C12, C13, C14, C15, C16

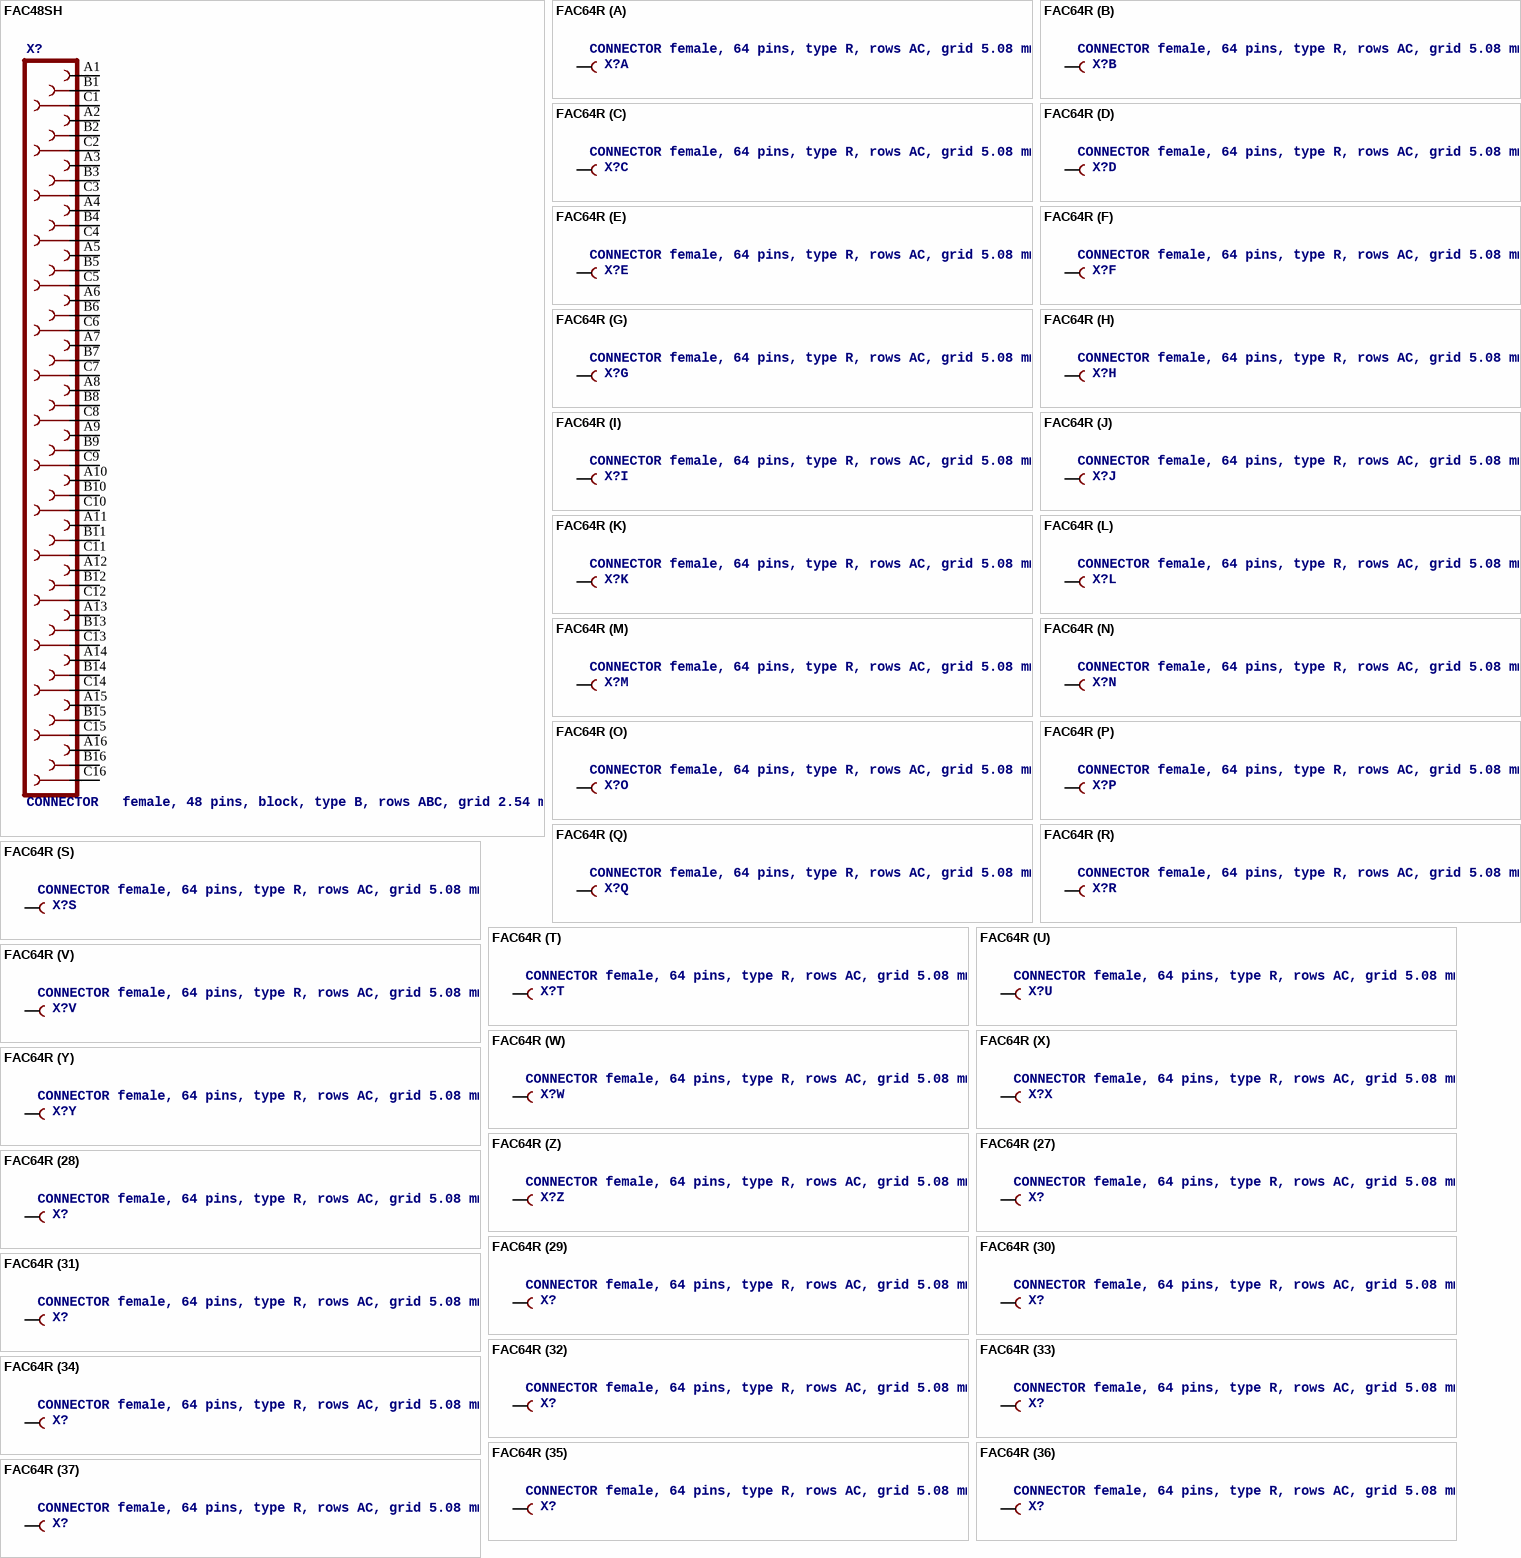
[diagram p34: symbols FAC48SH to FAC64R]

## FAC48SH
designator X?, comment CONNECTOR   female, 48 pins, block, type B, rows ABC, grid 2.54 mm
footprint FAC48SH
pins: A1, A2, A3, A4, A5, A6, A7, A8, A9, A10, A11, A12, A13, A14, A15, A16, B1, B2, B3, B4, B5, B6, B7, B8, B9, B10, B11, B12, B13, B14, B15, B16, C1, C2, C3, C4, C5, C6, C7, C8, C9, C10, C11, C12, C13, C14, C15, C16

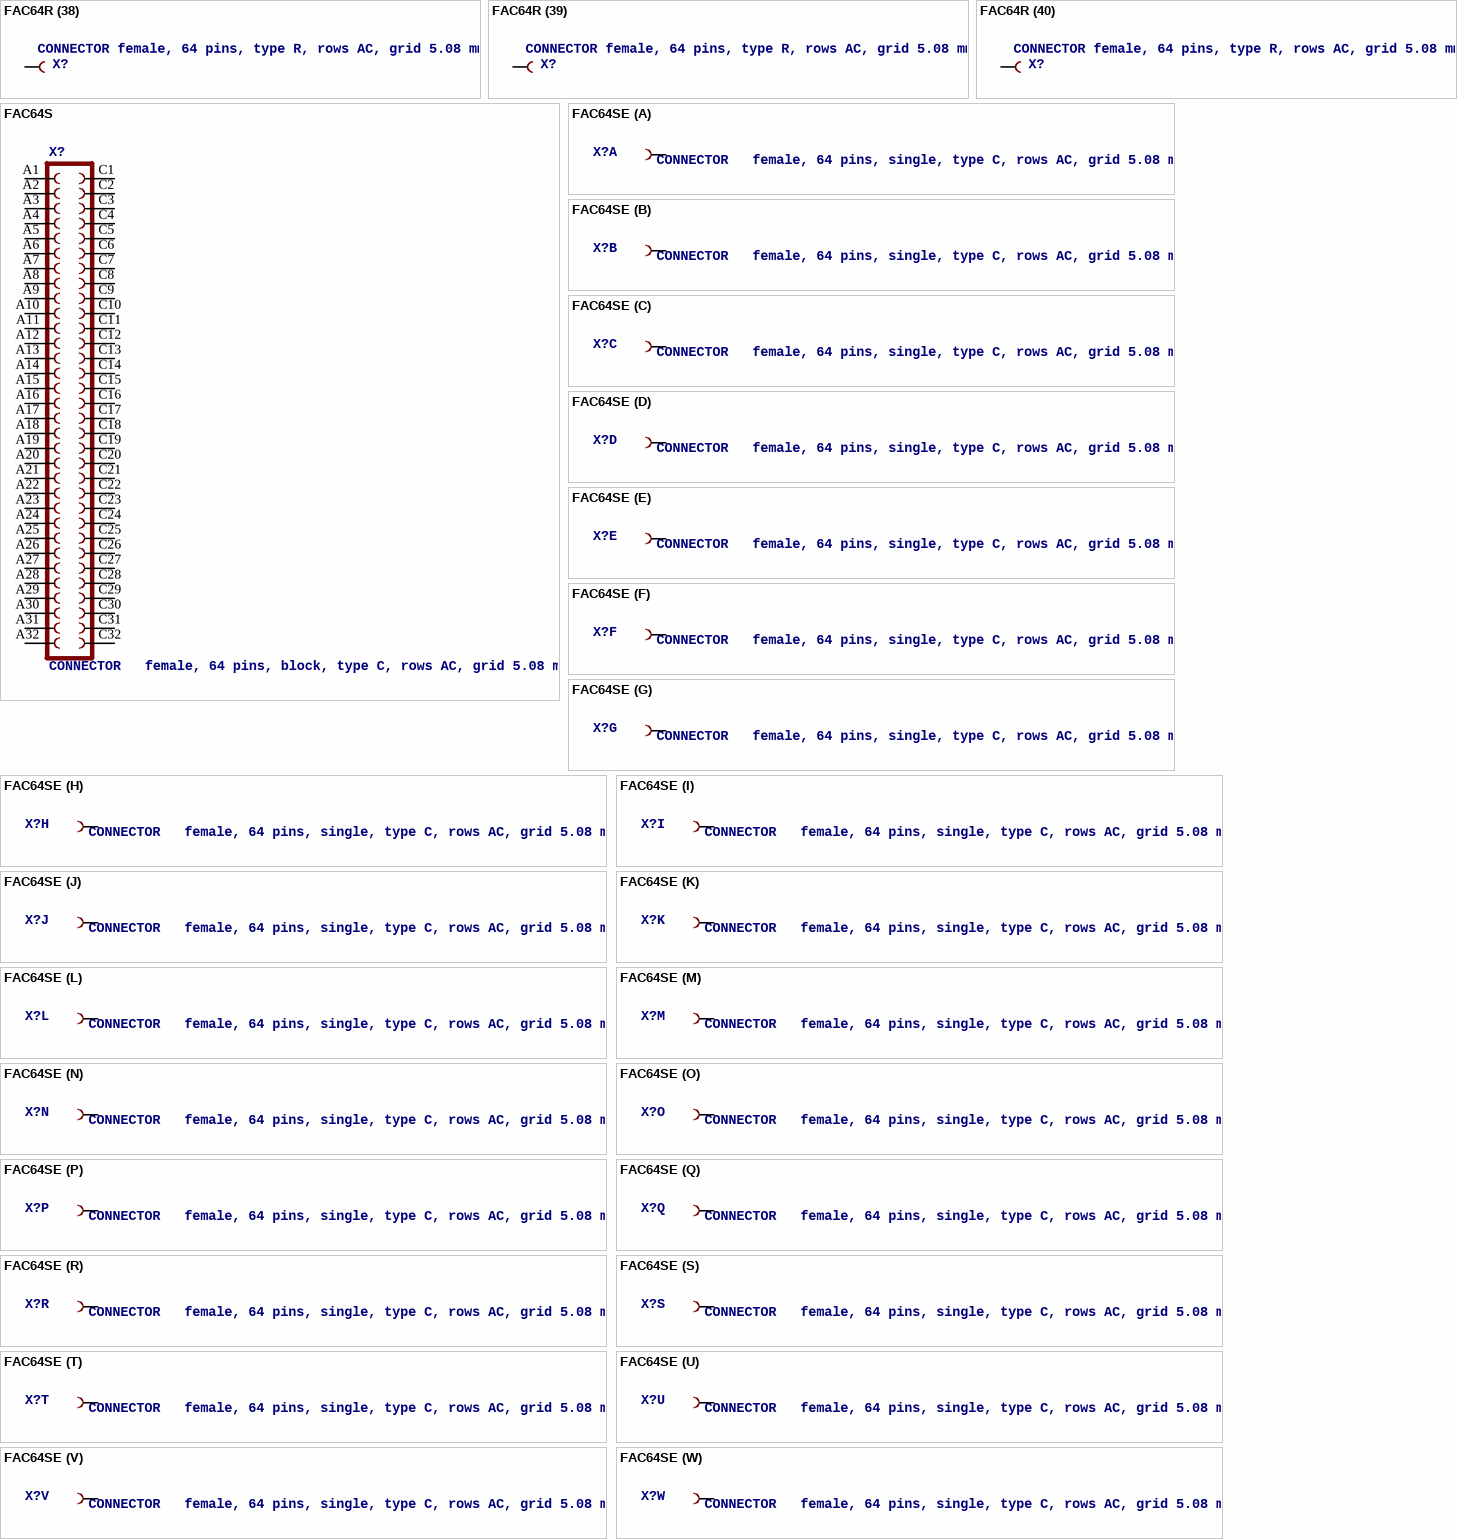
[diagram p35: symbols FAC64R to FAC64SE]

## FAC64R
designator X?, comment CONNECTOR female, 64 pins, type R, rows AC, grid 5.08 mm
footprint FAC64R
part A pins: A1 B
part B pins: A2 B
part C pins: A3 B
part D pins: A4 B
part E pins: A5 B
part F pins: A6 B
part G pins: A7 B
part H pins: A8 B
part I pins: A9 B
part J pins: A10 B
part K pins: A11 B
part L pins: A12 B
part M pins: A13 B
part N pins: A14 B
part O pins: A15 B
part P pins: A16 B
part Q pins: A17 B
part R pins: A18 B
part S pins: A19 B
part T pins: A20 B
part U pins: A21 B
part V pins: A22 B
part W pins: A23 B
part X pins: A24 B
part Y pins: A25 B
part Z pins: A26 B
part 27 pins: A27 B
part 28 pins: A28 B
part 29 pins: A29 B
part 30 pins: A30 B
part 31 pins: A31 B
part 32 pins: A32 B
part 33 pins: C1 B
part 34 pins: C2 B
part 35 pins: C3 B
part 36 pins: C4 B
part 37 pins: C5 B
part 38 pins: C6 B
part 39 pins: C7 B
part 40 pins: C8 B
part 41 pins: C9 B
part 42 pins: C10 B
part 43 pins: C11 B
part 44 pins: C12 B
part 45 pins: C13 B
part 46 pins: C14 B
part 47 pins: C15 B
part 48 pins: C16 B
part 49 pins: C17 B
part 50 pins: C18 B
part 51 pins: C19 B
part 52 pins: C20 B
part 53 pins: C21 B
part 54 pins: C22 B
part 55 pins: C23 B
part 56 pins: C24 B
part 57 pins: C25 B
part 58 pins: C26 B
part 59 pins: C27 B
part 60 pins: C28 B
part 61 pins: C29 B
part 62 pins: C30 B
part 63 pins: C31 B
part 64 pins: C32 B

## FAC64S
designator X?, comment CONNECTOR   female, 64 pins, block, type C, rows AC, grid 5.08 mm
footprint FAC64S
pins: A1, A2, A3, A4, A5, A6, A7, A8, A9, A10, A11, A12, A13, A14, A15, A16, A17, A18, A19, A20, A21, A22, A23, A24, A25, A26, A27, A28, A29, A30, A31, A32, C1, C2, C3, C4, C5, C6, C7, C8, C9, C10, C11, C12, C13, C14, C15, C16, C17, C18, C19, C20, C21, C22, C23, C24, C25, C26, C27, C28, C29, C30, C31, C32

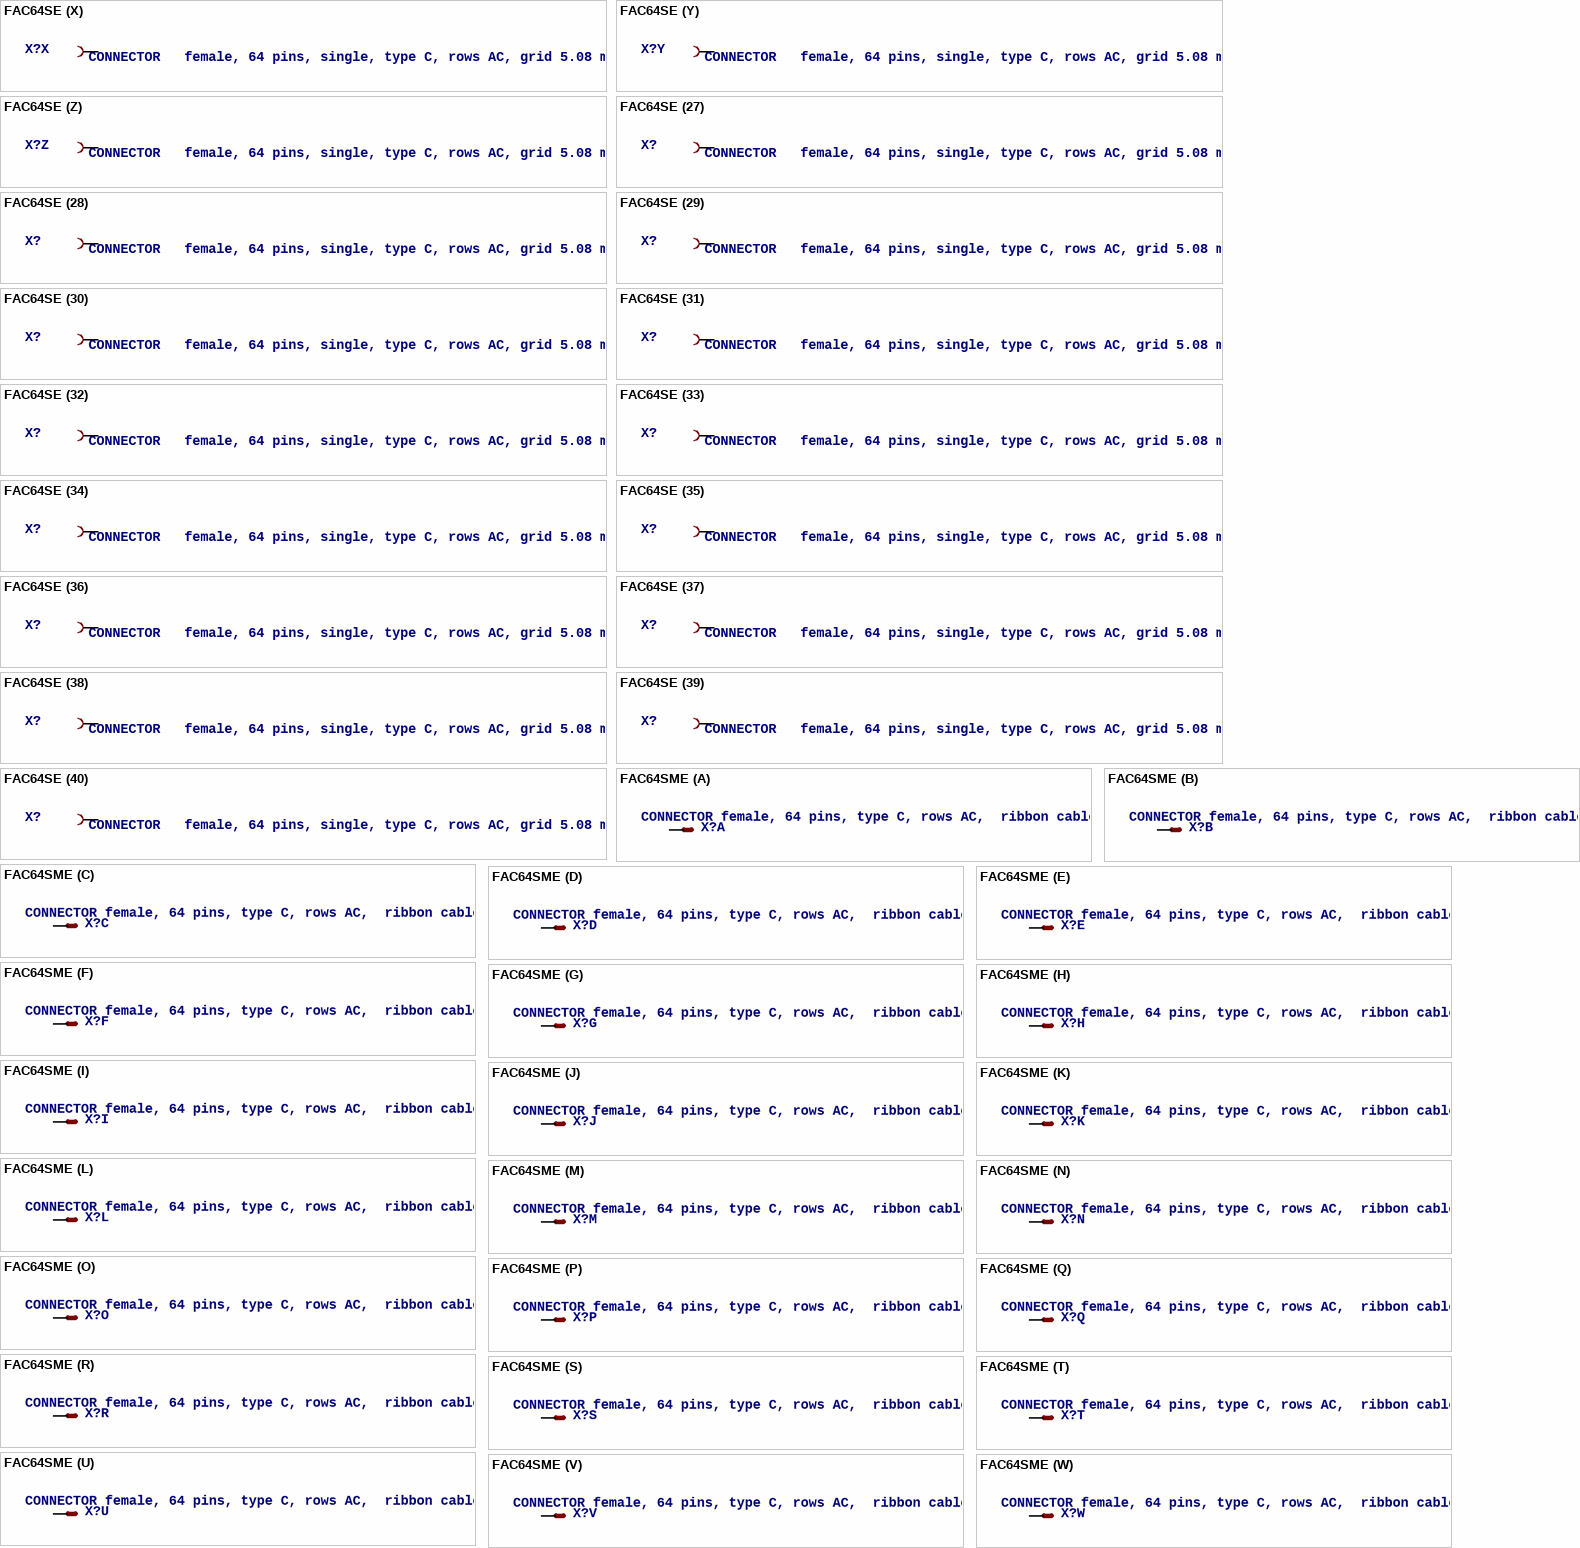
[diagram p36: symbols FAC64SE to FAC64SME]

## FAC64SE
designator X?, comment CONNECTOR   female, 64 pins, single, type C, rows AC, grid 5.08 mm
footprint FAC64S
part A pins: A1 B
part B pins: A2 B
part C pins: A3 B
part D pins: A4 B
part E pins: A5 B
part F pins: A6 B
part G pins: A7 B
part H pins: A8 B
part I pins: A9 B
part J pins: A10 B
part K pins: A11 B
part L pins: A12 B
part M pins: A13 B
part N pins: A14 B
part O pins: A15 B
part P pins: A16 B
part Q pins: A17 B
part R pins: A18 B
part S pins: A19 B
part T pins: A20 B
part U pins: A21 B
part V pins: A22 B
part W pins: A23 B
part X pins: A24 B
part Y pins: A25 B
part Z pins: A26 B
part 27 pins: A27 B
part 28 pins: A28 B
part 29 pins: A29 B
part 30 pins: A30 B
part 31 pins: A31 B
part 32 pins: A32 B
part 33 pins: C1 B
part 34 pins: C2 B
part 35 pins: C3 B
part 36 pins: C4 B
part 37 pins: C5 B
part 38 pins: C6 B
part 39 pins: C7 B
part 40 pins: C8 B
part 41 pins: C9 B
part 42 pins: C10 B
part 43 pins: C11 B
part 44 pins: C12 B
part 45 pins: C13 B
part 46 pins: C14 B
part 47 pins: C15 B
part 48 pins: C16 B
part 49 pins: C17 B
part 50 pins: C18 B
part 51 pins: C19 B
part 52 pins: C20 B
part 53 pins: C21 B
part 54 pins: C22 B
part 55 pins: C23 B
part 56 pins: C24 B
part 57 pins: C25 B
part 58 pins: C26 B
part 59 pins: C27 B
part 60 pins: C28 B
part 61 pins: C29 B
part 62 pins: C30 B
part 63 pins: C31 B
part 64 pins: C32 B

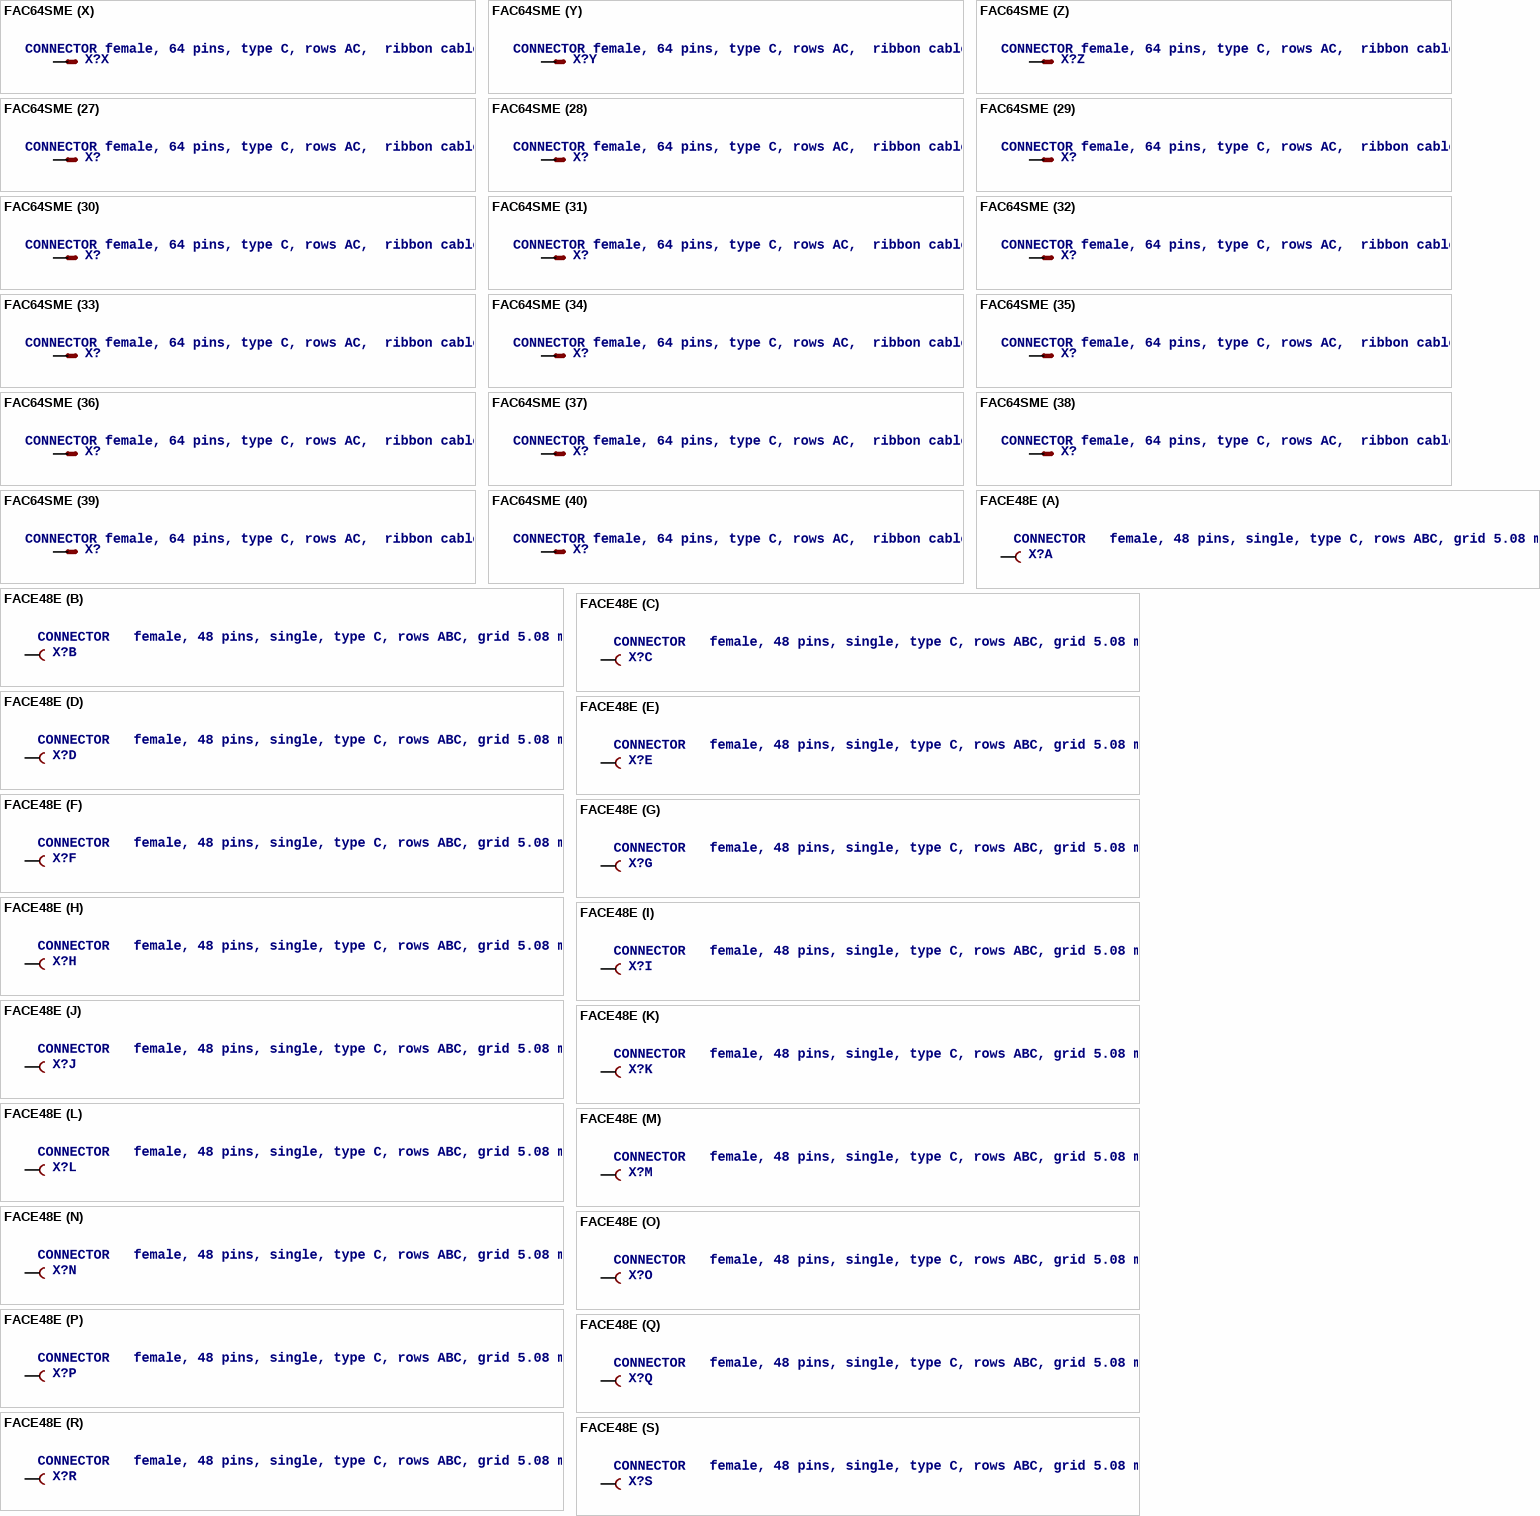
[diagram p37: symbols FAC64SME to FACE48E]

## FAC64SME
designator X?, comment CONNECTOR female, 64 pins, type C, rows AC,  ribbon cable
footprint FAC64SME
part A pins: A1 S
part B pins: A2 S
part C pins: A3 S
part D pins: A4 S
part E pins: A5 S
part F pins: A6 S
part G pins: A7 S
part H pins: A8 S
part I pins: A9 S
part J pins: A10 S
part K pins: A11 S
part L pins: A12 S
part M pins: A13 S
part N pins: A14 S
part O pins: A15 S
part P pins: A16 S
part Q pins: A17 S
part R pins: A18 S
part S pins: A19 S
part T pins: A20 S
part U pins: A21 S
part V pins: A22 S
part W pins: A23 S
part X pins: A24 S
part Y pins: A25 S
part Z pins: A26 S
part 27 pins: A27 S
part 28 pins: A28 S
part 29 pins: A29 S
part 30 pins: A30 S
part 31 pins: A31 S
part 32 pins: A32 S
part 33 pins: C1 S
part 34 pins: C2 S
part 35 pins: C3 S
part 36 pins: C4 S
part 37 pins: C5 S
part 38 pins: C6 S
part 39 pins: C7 S
part 40 pins: C8 S
part 41 pins: C9 S
part 42 pins: C10 S
part 43 pins: C11 S
part 44 pins: C12 S
part 45 pins: C13 S
part 46 pins: C14 S
part 47 pins: C15 S
part 48 pins: C16 S
part 49 pins: C17 S
part 50 pins: C18 S
part 51 pins: C19 S
part 52 pins: C20 S
part 53 pins: C21 S
part 54 pins: C22 S
part 55 pins: C23 S
part 56 pins: C24 S
part 57 pins: C25 S
part 58 pins: C26 S
part 59 pins: C27 S
part 60 pins: C28 S
part 61 pins: C29 S
part 62 pins: C30 S
part 63 pins: C31 S
part 64 pins: C32 S

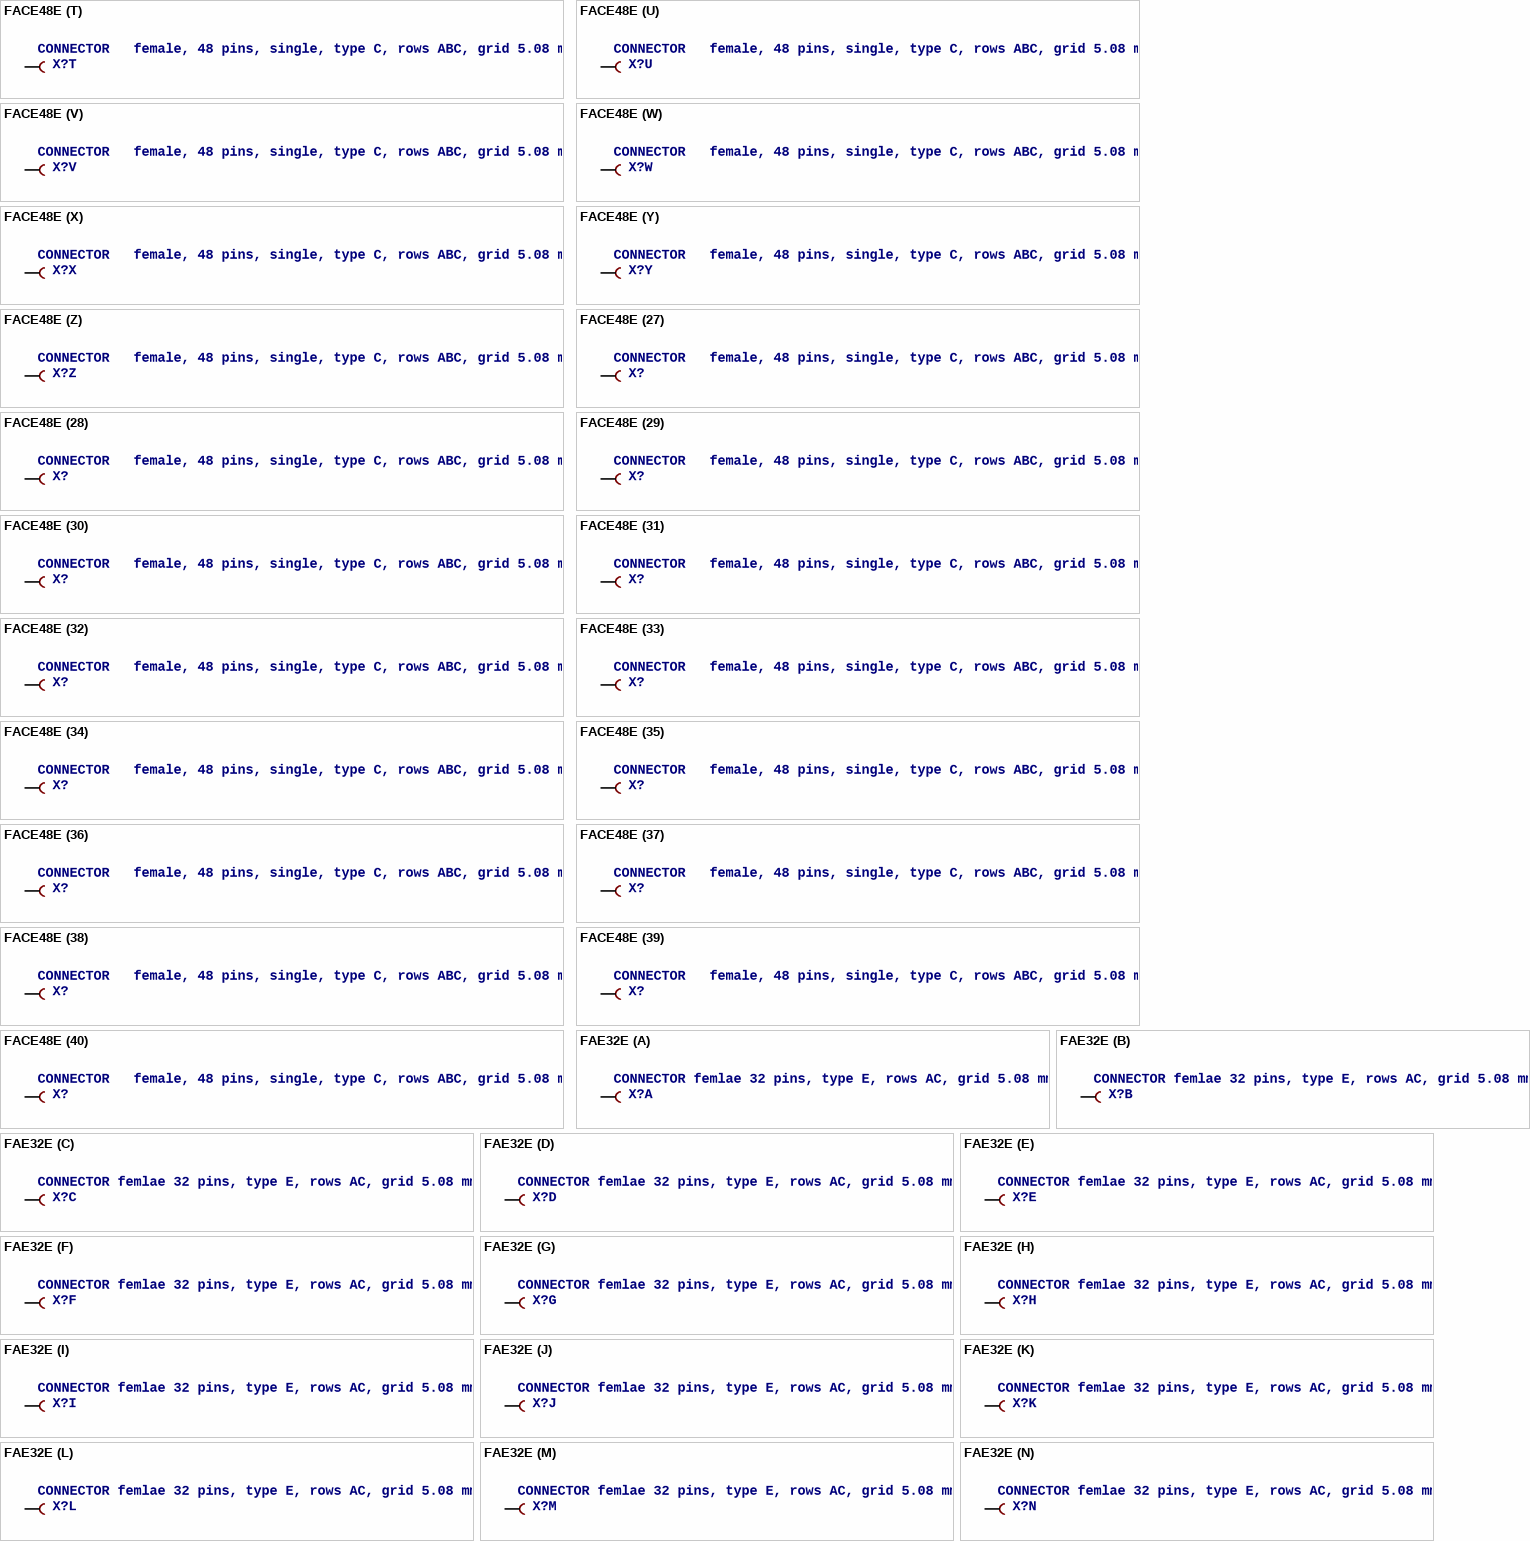
[diagram p38: symbols FACE48E to FAE32E]

## FACE48E
designator X?, comment CONNECTOR   female, 48 pins, single, type C, rows ABC, grid 5.08 mm
footprint FACE48E
part A pins: A2 B
part B pins: A4 B
part C pins: A6 B
part D pins: A8 B
part E pins: A10 B
part F pins: A12 B
part G pins: A14 B
part H pins: A16 B
part I pins: A18 B
part J pins: A20 B
part K pins: A22 B
part L pins: A24 B
part M pins: C2 B
part N pins: C4 B
part O pins: C6 B
part P pins: C8 B
part Q pins: C10 B
part R pins: C12 B
part S pins: C14 B
part T pins: C16 B
part U pins: C18 B
part V pins: C20 B
part W pins: C22 B
part X pins: C24 B
part Y pins: E2 B
part Z pins: E4 B
part 27 pins: E6 B
part 28 pins: E8 B
part 29 pins: E10 B
part 30 pins: E12 B
part 31 pins: E14 B
part 32 pins: E16 B
part 33 pins: E18 B
part 34 pins: E20 B
part 35 pins: E22 B
part 36 pins: E24 B
part 37 pins: A26 B
part 38 pins: A28 B
part 39 pins: A30 B
part 40 pins: A32 B
part 41 pins: C26 B
part 42 pins: C28 B
part 43 pins: C30 B
part 44 pins: C32 B
part 45 pins: E26 B
part 46 pins: E28 B
part 47 pins: E30 B
part 48 pins: E32 B

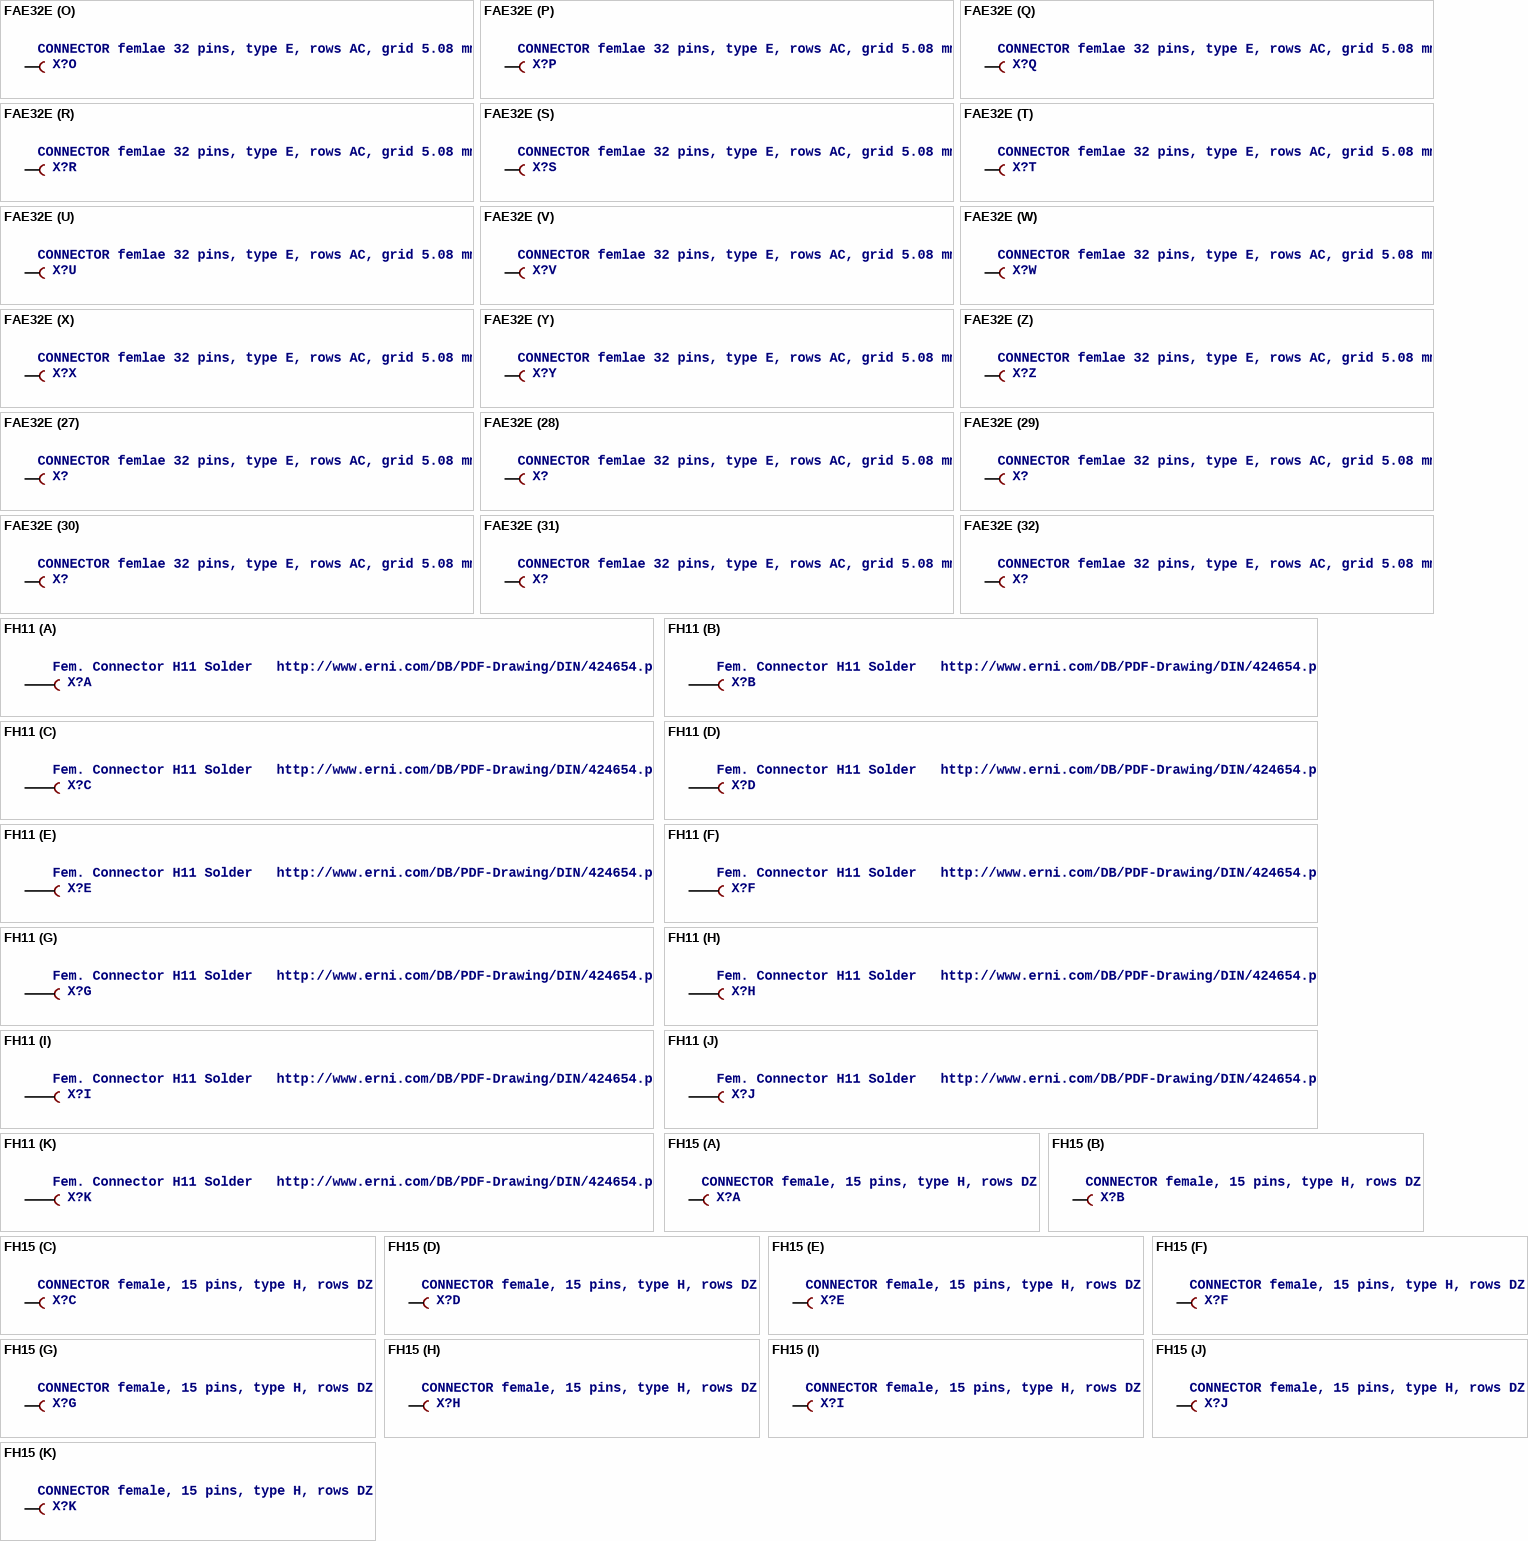
[diagram p39: symbols FAE32E to FH15]

## FAE32E
designator X?, comment CONNECTOR femlae 32 pins, type E, rows AC, grid 5.08 mm
footprint FAE32E
part A pins: A2 B
part B pins: A4 B
part C pins: A6 B
part D pins: A8 B
part E pins: A10 B
part F pins: A12 B
part G pins: A14 B
part H pins: A16 B
part I pins: A18 B
part J pins: A20 B
part K pins: A22 B
part L pins: A24 B
part M pins: A26 B
part N pins: A28 B
part O pins: A30 B
part P pins: A32 B
part Q pins: E2 B
part R pins: E4 B
part S pins: E6 B
part T pins: E8 B
part U pins: E10 B
part V pins: E12 B
part W pins: E14 B
part X pins: E16 B
part Y pins: E18 B
part Z pins: E20 B
part 27 pins: E22 B
part 28 pins: E24 B
part 29 pins: E26 B
part 30 pins: E28 B
part 31 pins: E30 B
part 32 pins: E32 B

## FH11
designator X?, comment Fem. Connector H11 Solder   http://www.erni.com/DB/PDF-Drawing/DIN/424654.pdf
footprint FH11
part A pins: A2 A, B2 B
part B pins: A5 A, B5 B
part C pins: A8 A, B8 B
part D pins: A11 A, B11 B
part E pins: A14 A, B14 B
part F pins: A17 A, B17 B
part G pins: A20 A, B20 B
part H pins: A23 A, B23 B
part I pins: A26 A, B26 B
part J pins: A29 A, B29 B
part K pins: A32 A, B32 B

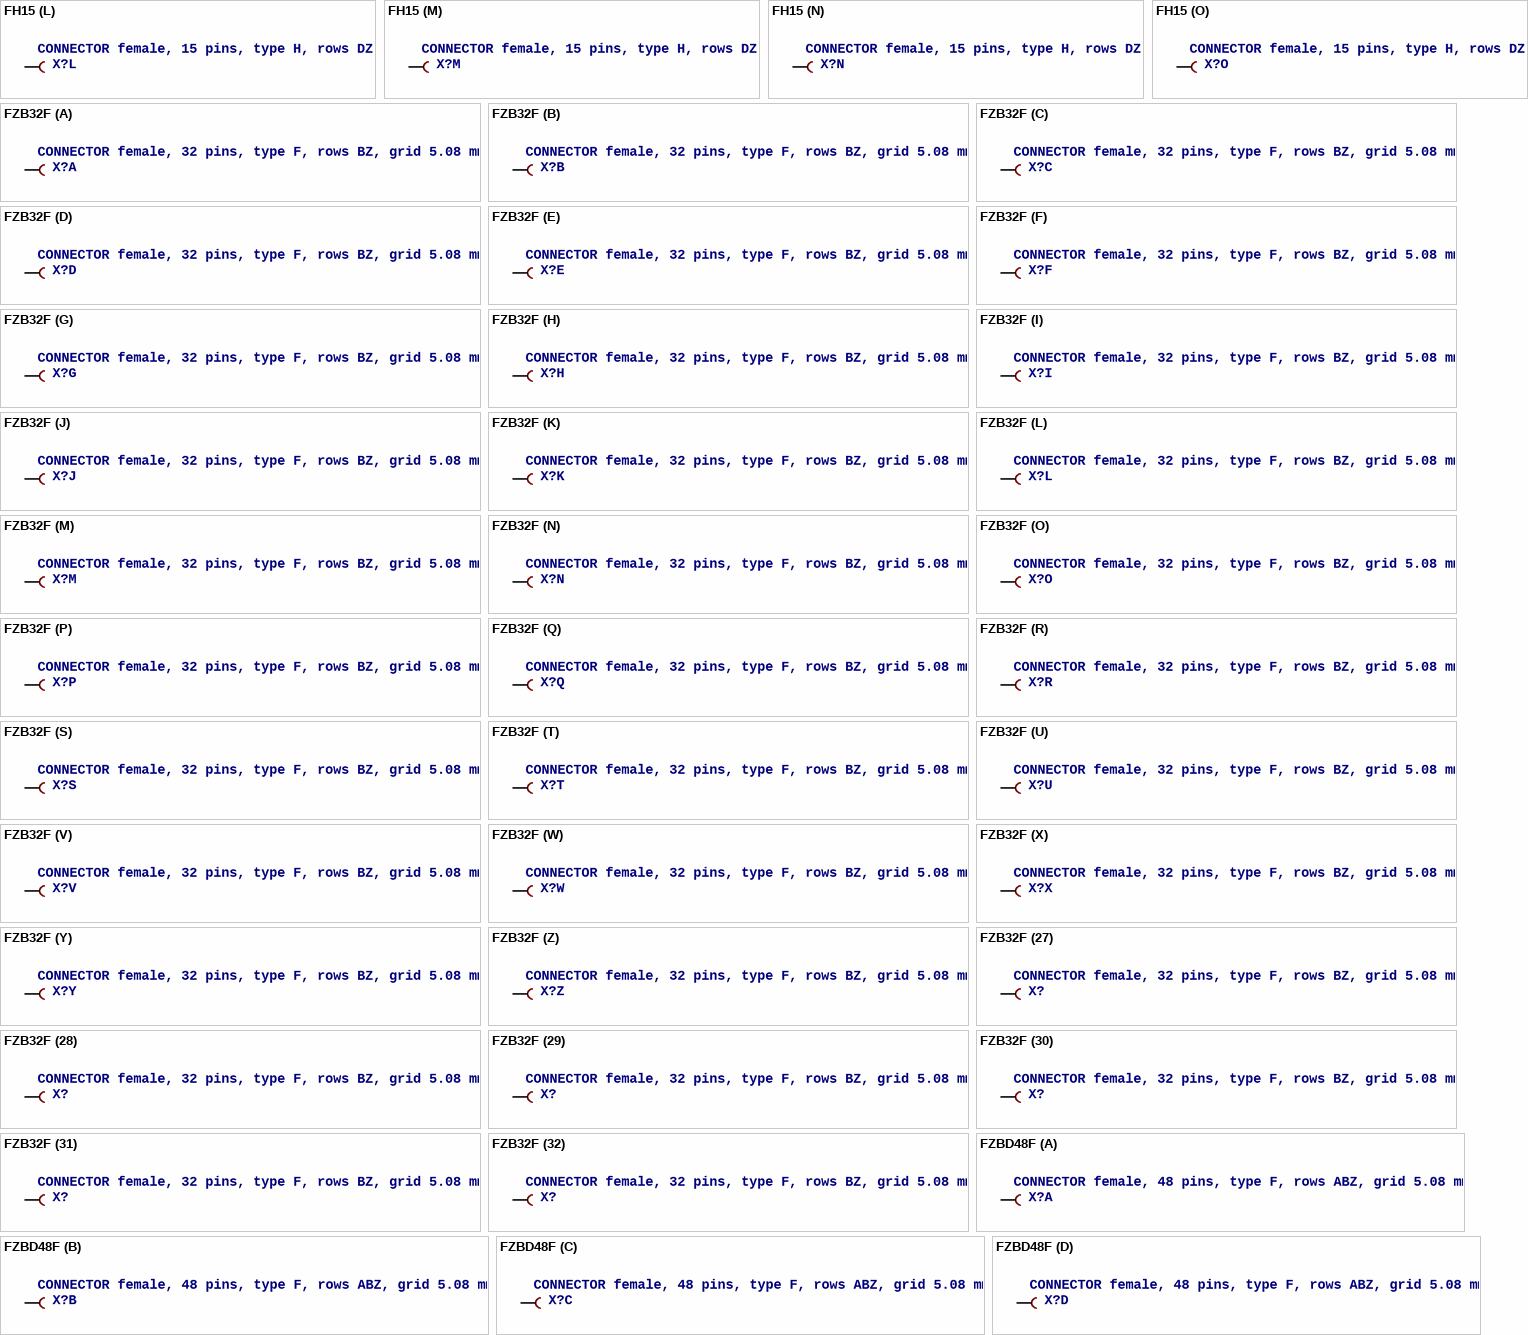
[diagram p40: symbols FH15 to FZBD48F]

## FH15
designator X?, comment CONNECTOR female, 15 pins, type H, rows DZ
footprint FH15
part A pins: 4 B
part B pins: 6 B
part C pins: 8 B
part D pins: 10 B
part E pins: 12 B
part F pins: 14 B
part G pins: 16 B
part H pins: 18 B
part I pins: 20 B
part J pins: 22 B
part K pins: 24 B
part L pins: 26 B
part M pins: 28 B
part N pins: 30 B
part O pins: 32 B

## FZB32F
designator X?, comment CONNECTOR female, 32 pins, type F, rows BZ, grid 5.08 mm
footprint FZB32F
part A pins: B2 B
part B pins: B4 B
part C pins: B6 B
part D pins: B8 B
part E pins: B10 B
part F pins: B12 B
part G pins: B14 B
part H pins: B16 B
part I pins: B18 B
part J pins: B20 B
part K pins: B22 B
part L pins: B24 B
part M pins: B26 B
part N pins: B28 B
part O pins: B30 B
part P pins: B32 B
part Q pins: Z2 B
part R pins: Z4 B
part S pins: Z6 B
part T pins: Z8 B
part U pins: Z10 B
part V pins: Z12 B
part W pins: Z14 B
part X pins: Z16 B
part Y pins: Z18 B
part Z pins: Z20 B
part 27 pins: Z22 B
part 28 pins: Z24 B
part 29 pins: Z26 B
part 30 pins: Z28 B
part 31 pins: Z30 B
part 32 pins: Z32 B

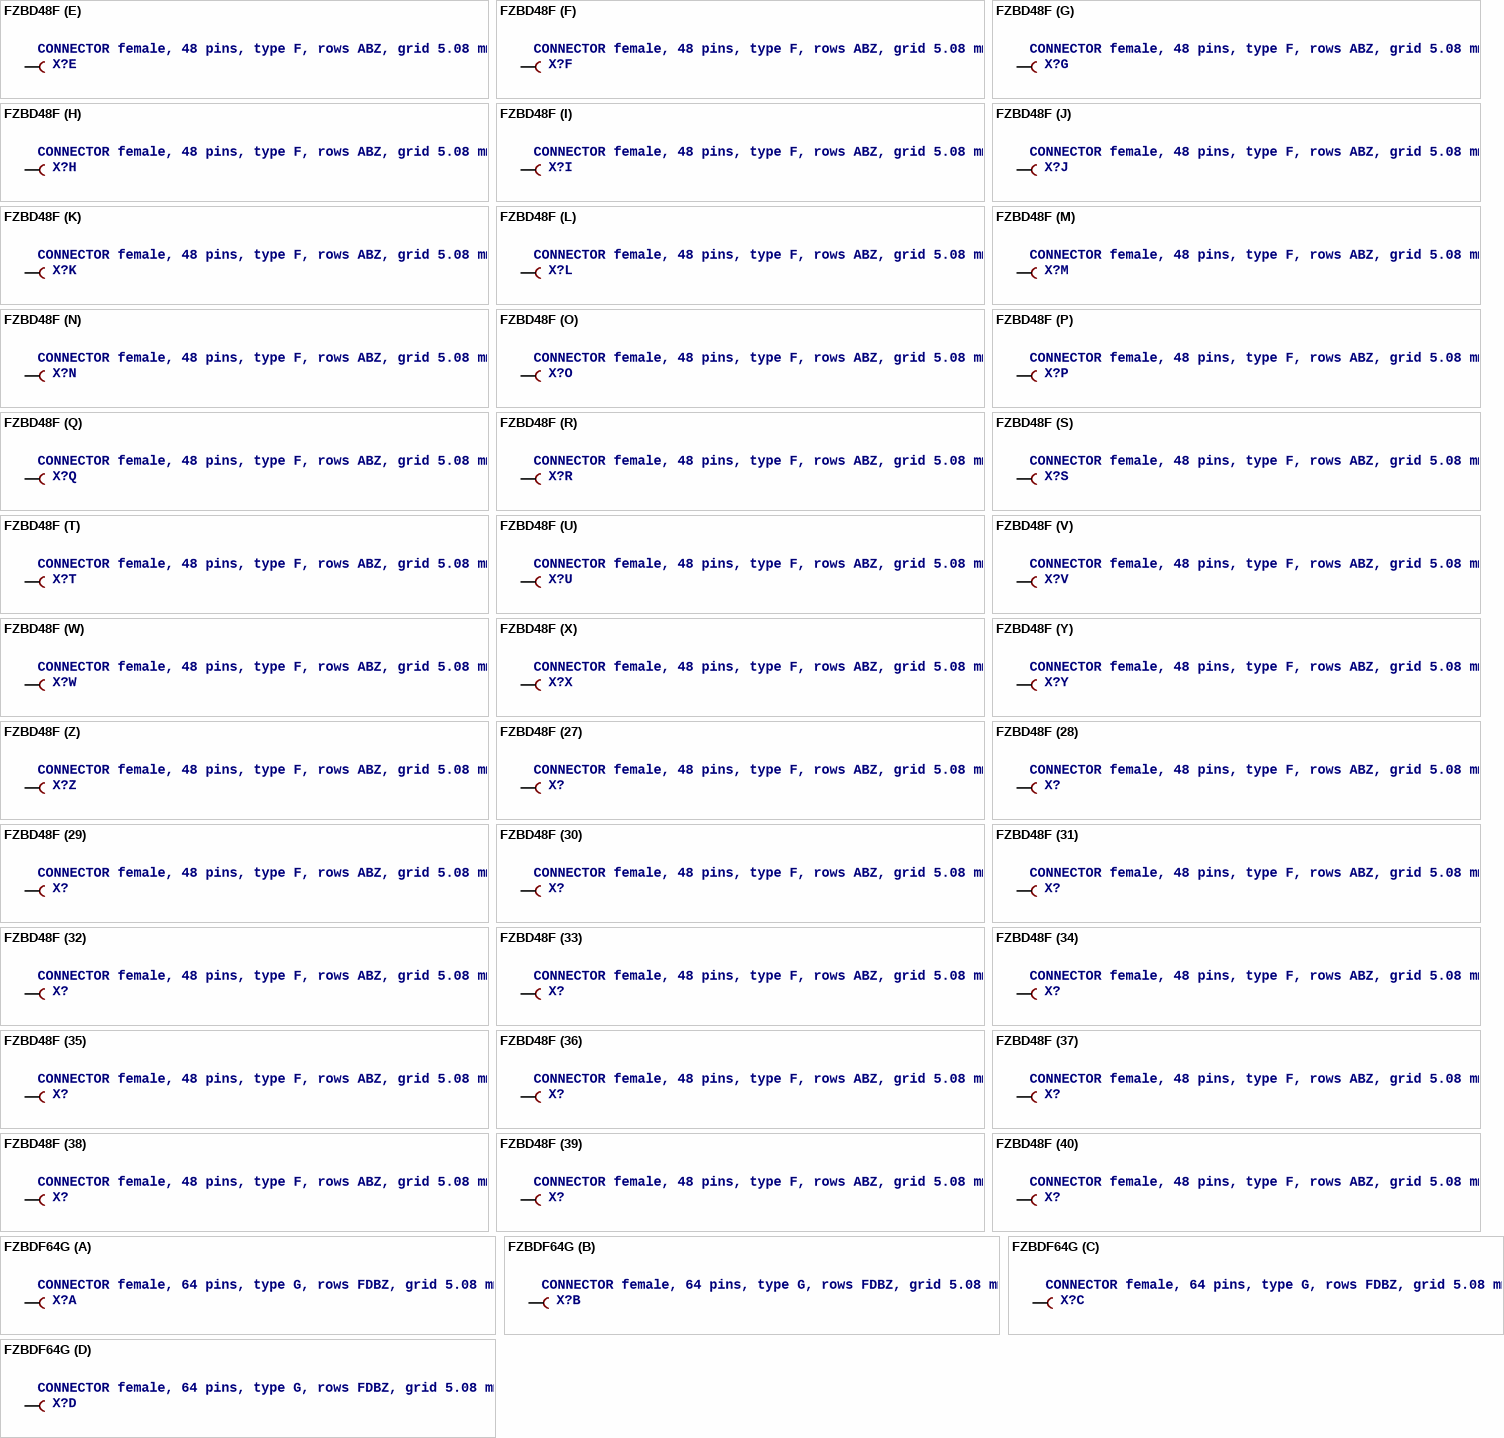
[diagram p41: symbols FZBD48F to FZBDF64G]

## FZBD48F
designator X?, comment CONNECTOR female, 48 pins, type F, rows ABZ, grid 5.08 mm
footprint FZBD48F
part A pins: D2 B
part B pins: D4 B
part C pins: D6 B
part D pins: D8 B
part E pins: D10 B
part F pins: D12 B
part G pins: D14 B
part H pins: D16 B
part I pins: D18 B
part J pins: D20 B
part K pins: D22 B
part L pins: D24 B
part M pins: D26 B
part N pins: D28 B
part O pins: D30 B
part P pins: D32 B
part Q pins: B2 B
part R pins: B4 B
part S pins: B6 B
part T pins: B8 B
part U pins: B10 B
part V pins: B12 B
part W pins: B14 B
part X pins: B16 B
part Y pins: B18 B
part Z pins: B20 B
part 27 pins: B22 B
part 28 pins: B24 B
part 29 pins: B26 B
part 30 pins: B28 B
part 31 pins: B30 B
part 32 pins: B32 B
part 33 pins: Z2 B
part 34 pins: Z4 B
part 35 pins: Z6 B
part 36 pins: Z8 B
part 37 pins: Z10 B
part 38 pins: Z12 B
part 39 pins: Z14 B
part 40 pins: Z16 B
part 41 pins: Z18 B
part 42 pins: Z20 B
part 43 pins: Z22 B
part 44 pins: Z24 B
part 45 pins: Z26 B
part 46 pins: Z28 B
part 47 pins: Z30 B
part 48 pins: Z32 B

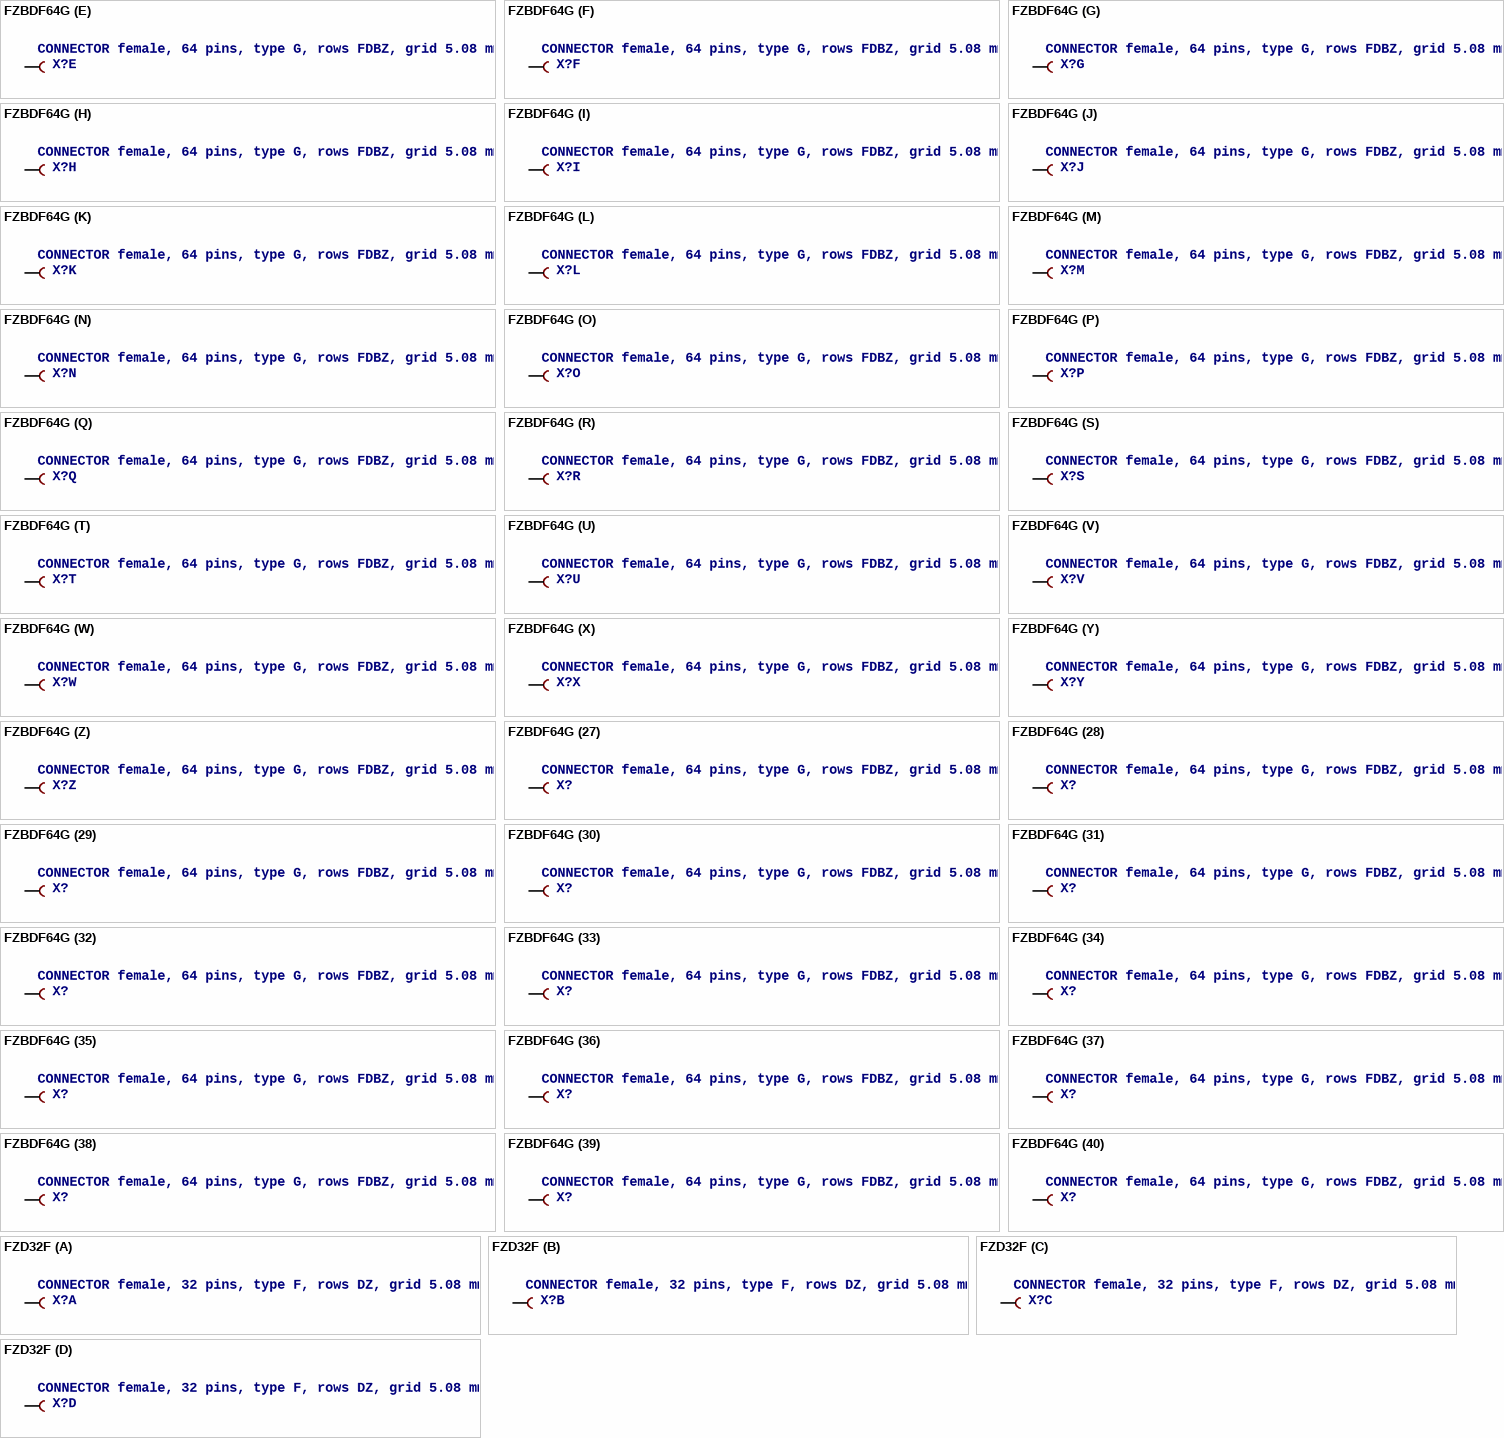
[diagram p42: symbols FZBDF64G to FZD32F]

## FZBDF64G
designator X?, comment CONNECTOR female, 64 pins, type G, rows FDBZ, grid 5.08 mm
footprint FZBDF64G
part A pins: D2 B
part B pins: D4 B
part C pins: D6 B
part D pins: D8 B
part E pins: D10 B
part F pins: D12 B
part G pins: D14 B
part H pins: D16 B
part I pins: D18 B
part J pins: D20 B
part K pins: D22 B
part L pins: D24 B
part M pins: D26 B
part N pins: D28 B
part O pins: D30 B
part P pins: D32 B
part Q pins: B2 B
part R pins: B4 B
part S pins: B6 B
part T pins: B8 B
part U pins: B10 B
part V pins: B12 B
part W pins: B14 B
part X pins: B16 B
part Y pins: B18 B
part Z pins: B20 B
part 27 pins: B22 B
part 28 pins: B24 B
part 29 pins: B26 B
part 30 pins: B28 B
part 31 pins: B30 B
part 32 pins: B32 B
part 33 pins: Z2 B
part 34 pins: Z4 B
part 35 pins: Z6 B
part 36 pins: Z8 B
part 37 pins: Z10 B
part 38 pins: Z12 B
part 39 pins: Z14 B
part 40 pins: Z16 B
part 41 pins: Z18 B
part 42 pins: Z20 B
part 43 pins: Z22 B
part 44 pins: Z24 B
part 45 pins: Z26 B
part 46 pins: Z28 B
part 47 pins: Z30 B
part 48 pins: Z32 B
part 49 pins: F2 B
part 50 pins: F4 B
part 51 pins: F6 B
part 52 pins: F8 B
part 53 pins: F10 B
part 54 pins: F12 B
part 55 pins: F14 B
part 56 pins: F16 B
part 57 pins: F18 B
part 58 pins: F20 B
part 59 pins: F22 B
part 60 pins: F24 B
part 61 pins: F26 B
part 62 pins: F28 B
part 63 pins: F30 B
part 64 pins: F32 B

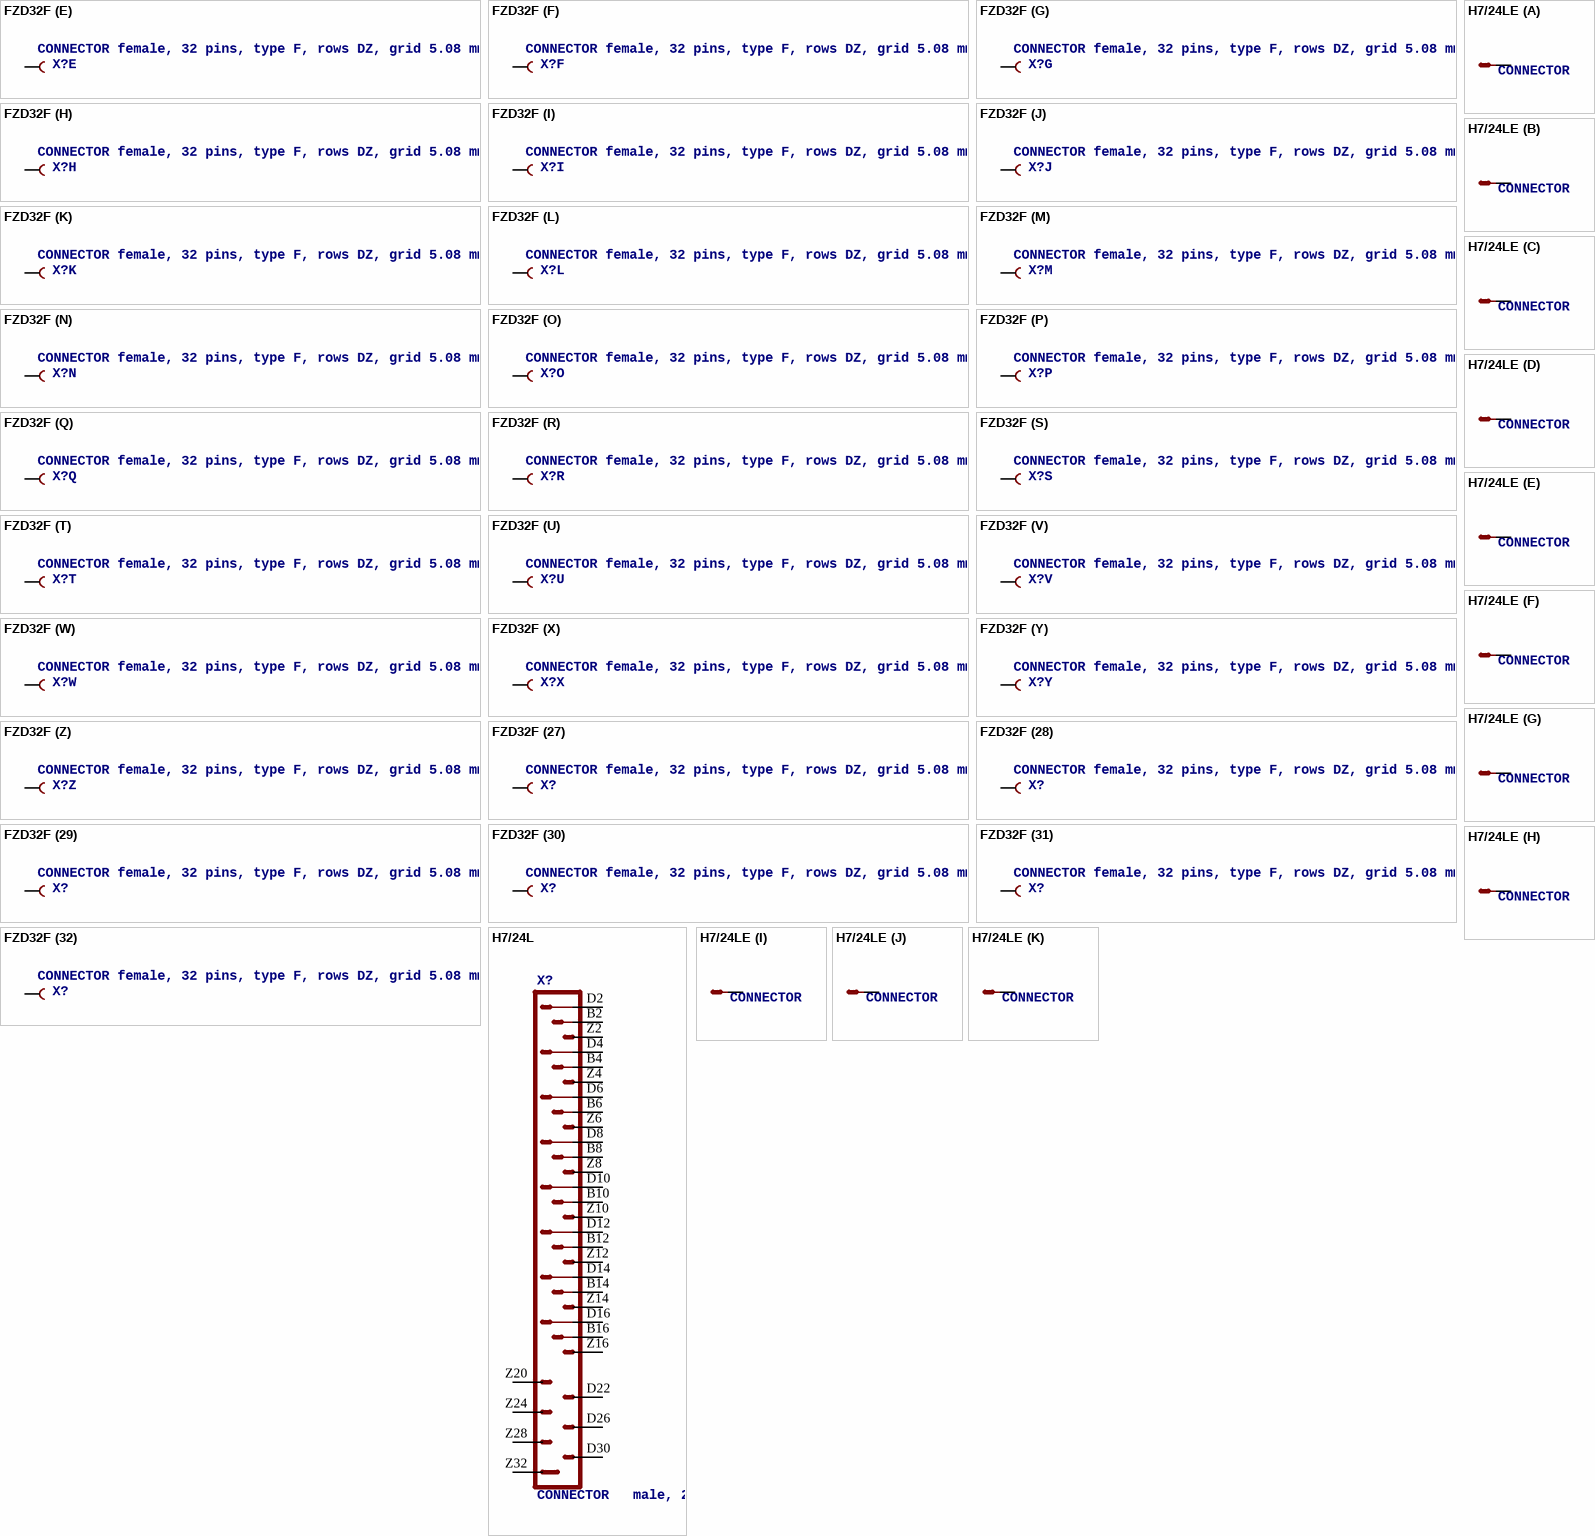
[diagram p43: symbols FZD32F to H7/24LE]

## FZD32F
designator X?, comment CONNECTOR female, 32 pins, type F, rows DZ, grid 5.08 mm
footprint FZD32F
part A pins: D2 B
part B pins: D4 B
part C pins: D6 B
part D pins: D8 B
part E pins: D10 B
part F pins: D12 B
part G pins: D14 B
part H pins: D16 B
part I pins: D18 B
part J pins: D20 B
part K pins: D22 B
part L pins: D24 B
part M pins: D26 B
part N pins: D28 B
part O pins: D30 B
part P pins: D32 B
part Q pins: Z2 B
part R pins: Z4 B
part S pins: Z6 B
part T pins: Z8 B
part U pins: Z10 B
part V pins: Z12 B
part W pins: Z14 B
part X pins: Z16 B
part Y pins: Z18 B
part Z pins: Z20 B
part 27 pins: Z22 B
part 28 pins: Z24 B
part 29 pins: Z26 B
part 30 pins: Z28 B
part 31 pins: Z30 B
part 32 pins: Z32 B

## H7/24L
designator X?, comment CONNECTOR   male, 24 pins + 7 high current pins, block, type H, rows DBZ
footprint H7/24L
pins: B2, B4, B6, B8, B10, B12, B14, B16, D2, D4, D6, D8, D10, D12, D14, D16, D22, D26, D30, Z2, Z4, Z6, Z8, Z10, Z12, Z14, Z16, Z20, Z24, Z28, Z32

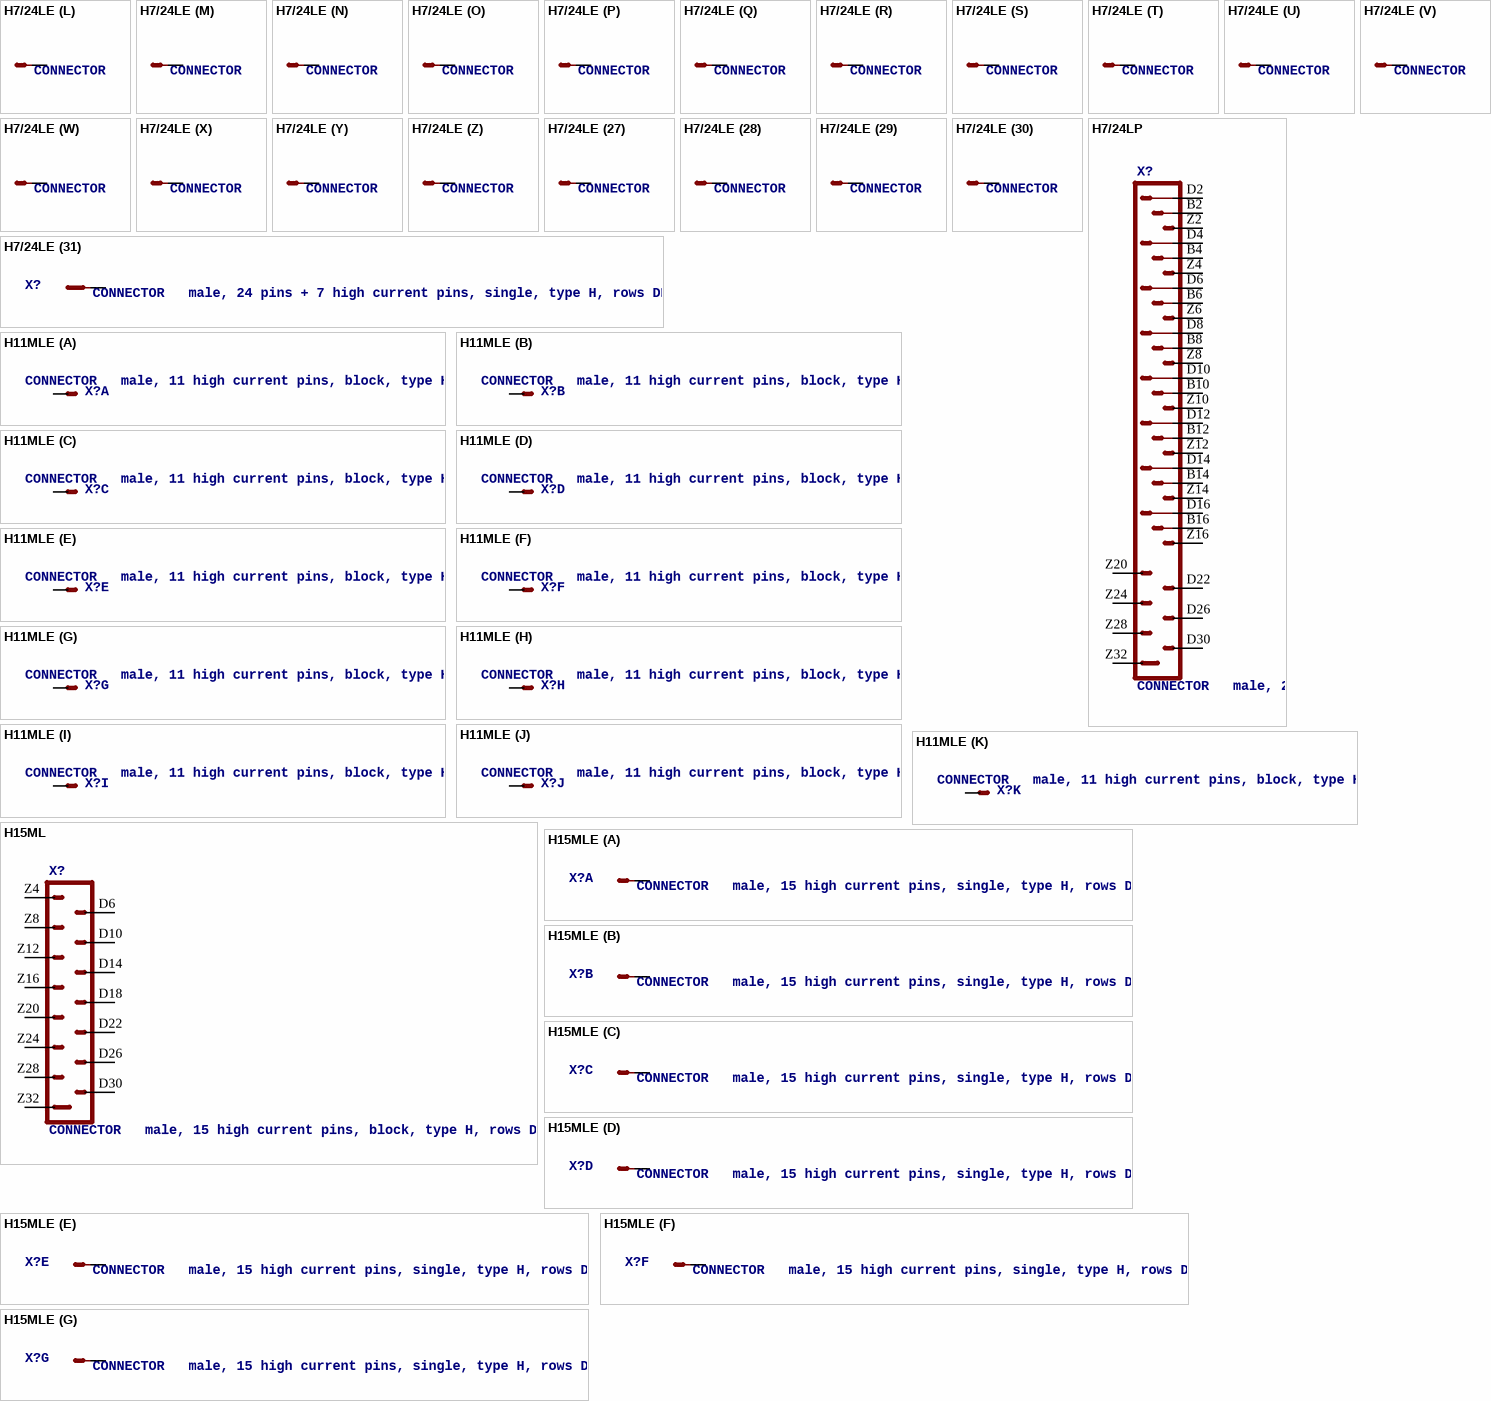
[diagram p44: symbols H7/24LE to H15MLE]

## H7/24LE
designator X?, comment CONNECTOR   male, 24 pins + 7 high current pins, single, type H, rows DBZ
footprint H7/24L
part A pins: D2 S
part B pins: B2 S
part C pins: D4 S
part D pins: B4 S
part E pins: D6 S
part F pins: B6 S
part G pins: D8 S
part H pins: B8 S
part I pins: D10 S
part J pins: B10 S
part K pins: D12 S
part L pins: B12 S
part M pins: D14 S
part N pins: B14 S
part O pins: D16 S
part P pins: B16 S
part Q pins: Z2 S
part R pins: Z4 S
part S pins: Z6 S
part T pins: Z8 S
part U pins: Z10 S
part V pins: Z12 S
part W pins: Z14 S
part X pins: Z16 S
part Y pins: D22 S
part Z pins: D26 S
part 27 pins: D30 S
part 28 pins: Z20 S
part 29 pins: Z24 S
part 30 pins: Z28 S
part 31 pins: Z32 S

## H7/24LP
designator X?, comment CONNECTOR   male, 24 pins + 7 high current pins, block, type H, rows DBZ
footprint H7/24LP
pins: B2, B4, B6, B8, B10, B12, B14, B16, D2, D4, D6, D8, D10, D12, D14, D16, D22, D26, D30, Z2, Z4, Z6, Z8, Z10, Z12, Z14, Z16, Z20, Z24, Z28, Z32

## H11MLE
designator X?, comment CONNECTOR   male, 11 high current pins, block, type H
footprint MH11L
part A pins: 2 S
part B pins: 5 S
part C pins: 8 S
part D pins: 11 S
part E pins: 14 S
part F pins: 17 S
part G pins: 20 S
part H pins: 23 S
part I pins: 26 S
part J pins: 29 S
part K pins: 32 S

## H15ML
designator X?, comment CONNECTOR   male, 15 high current pins, block, type H, rows DZ
footprint H15ML
pins: D6, D10, D14, D18, D22, D26, D30, Z4, Z8, Z12, Z16, Z20, Z24, Z28, Z32

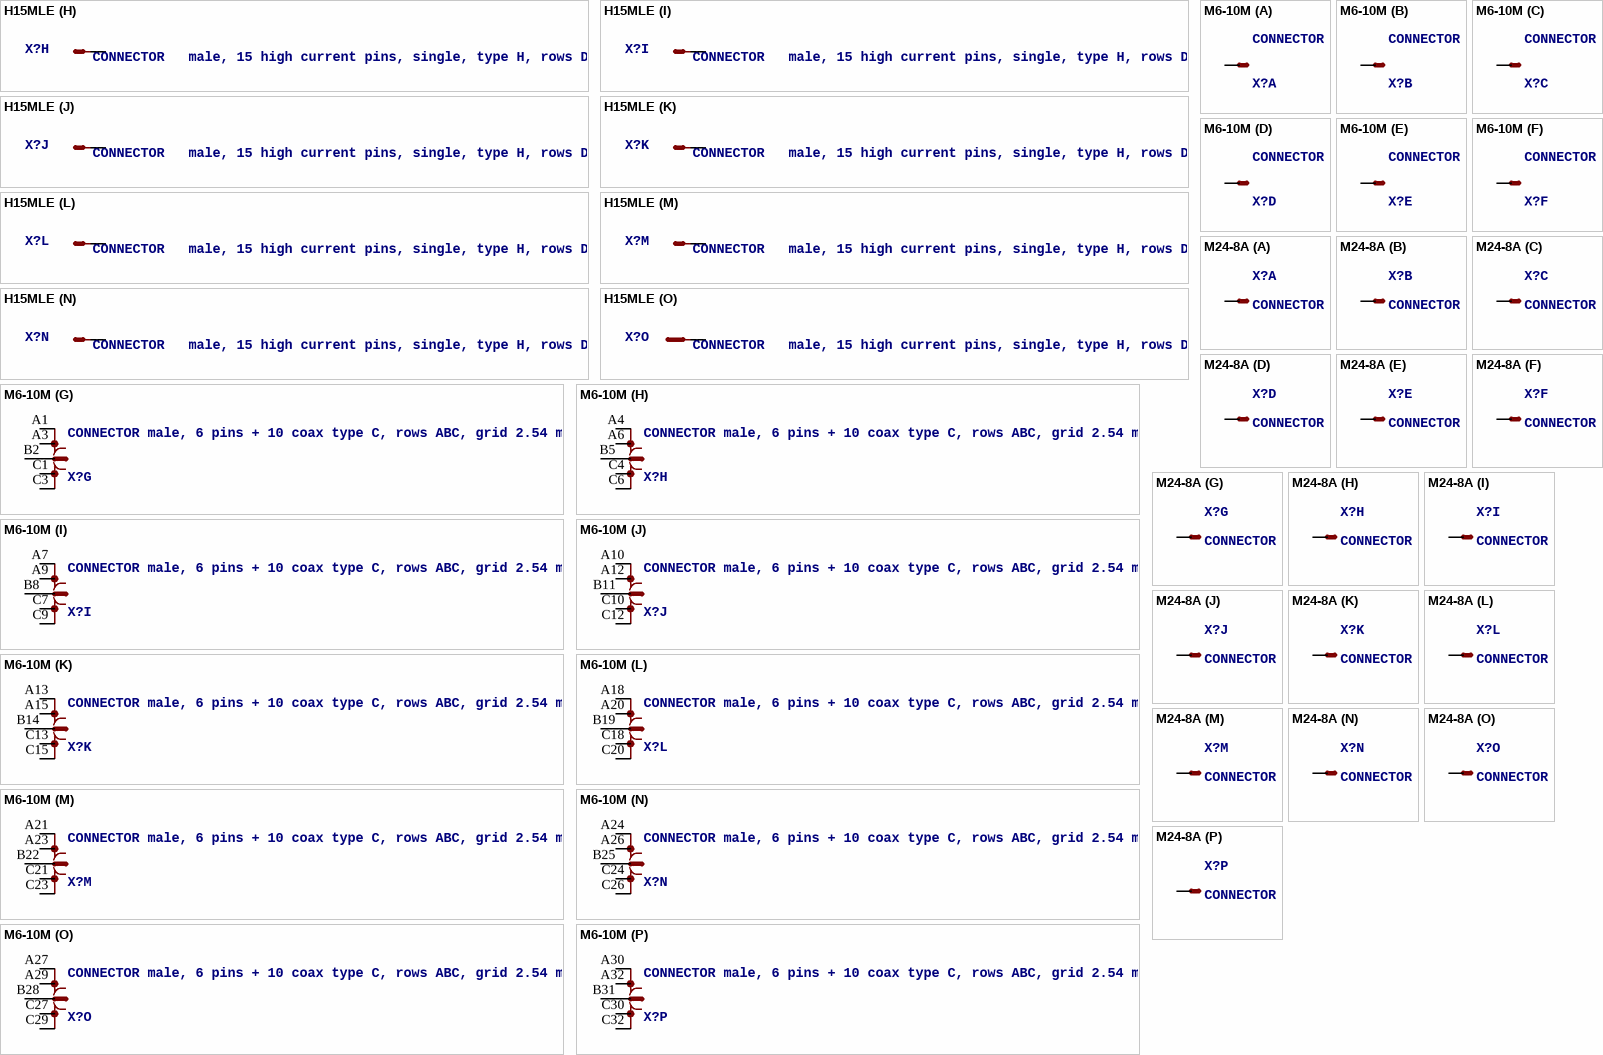
[diagram p45: symbols H15MLE to M24-8A]

## H15MLE
designator X?, comment CONNECTOR   male, 15 high current pins, single, type H, rows DZ
footprint H15ML
part A pins: Z4 S
part B pins: Z8 S
part C pins: Z12 S
part D pins: Z16 S
part E pins: Z20 S
part F pins: Z24 S
part G pins: Z28 S
part H pins: D30 S
part I pins: D6 S
part J pins: D10 S
part K pins: D14 S
part L pins: D18 S
part M pins: D22 S
part N pins: D26 S
part O pins: Z32 S

## M6-10M
designator X?, comment CONNECTOR male, 6 pins + 10 coax type C, rows ABC, grid 2.54 mm
footprint M6-10M
part A pins: A16 S
part B pins: A17 S
part C pins: B16 S
part D pins: B17 S
part E pins: C16 S
part F pins: C17 S
part G pins: A1 S1, A3 S2, B2 S, C1 S3, C3 S4
part H pins: A4 S1, A6 S2, B5 S, C4 S3, C6 S4
part I pins: A7 S1, A9 S2, B8 S, C7 S3, C9 S4
part J pins: A10 S1, A12 S2, B11 S, C10 S3, C12 S4
part K pins: A13 S1, A15 S2, B14 S, C13 S3, C15 S4
part L pins: A18 S1, A20 S2, B19 S, C18 S3, C20 S4
part M pins: A21 S1, A23 S2, B22 S, C21 S3, C23 S4
part N pins: A24 S1, A26 S2, B25 S, C24 S3, C26 S4
part O pins: A27 S1, A29 S2, B28 S, C27 S3, C29 S4
part P pins: A30 S1, A32 S2, B31 S, C30 S3, C32 S4